# Altium integrated library Motorola Microprocessor 8-Bit.IntLib: 126 symbols (part 2 of 3)
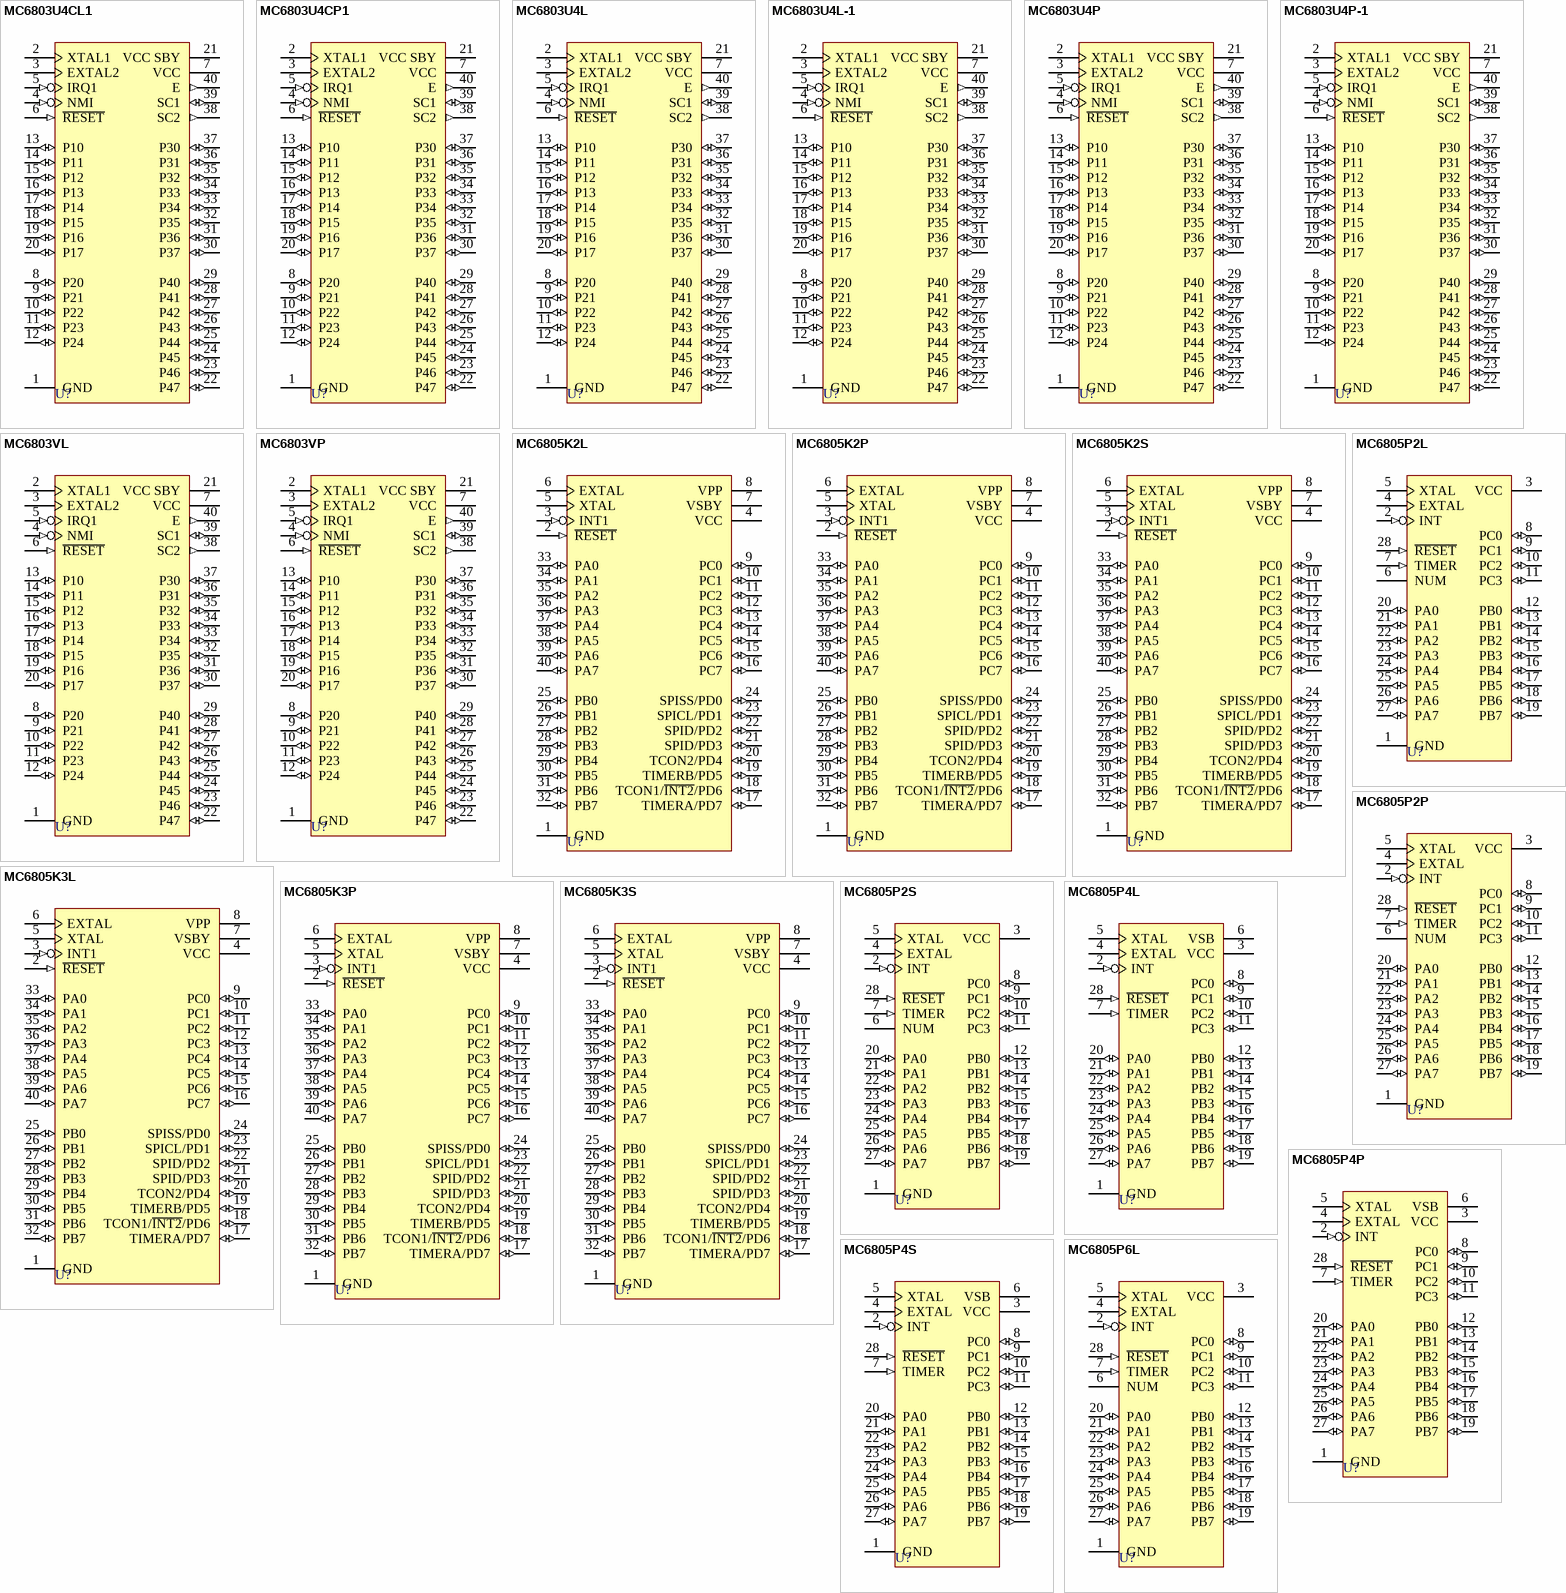
[diagram p7: symbols MC6803U4CL1 to MC6805P6L]

## MC6805P2L
designator U?
8-Bit HMOS 1K Microcomputer; Published: 17-Jul-2002; LatestRevisionDate: 06-Jun-2005; LatestRevisionNote: Stylized 3D Model Added.; DatasheetVersion: 1984; PackageReference: 719-03; Publisher: Altium Limited; PackageDescription: DIP; 28 Leads; Row Spacing 15.24 mm; Pitch 2.54 mm
footprint 719-03 (DIP; 28 Leads; Row Spacing 15.24 mm; Pitch 2.54 mm)
3D model 719-03 (DIP; 28 Leads; Row Spacing 15.24 mm; Pitch 2.54 mm)
pins: 1 GND (power), 2 INT (in), 3 VCC (power), 4 EXTAL, 5 XTAL, 6 NUM, 7 TIMER (in), 8 PC0 (io), 9 PC1 (io), 10 PC2 (io), 11 PC3 (io), 12 PB0 (io), 13 PB1 (io), 14 PB2 (io), 15 PB3 (io), 16 PB4 (io), 17 PB5 (io), 18 PB6 (io), 19 PB7 (io), 20 PA0 (io), 21 PA1 (io), 22 PA2 (io), 23 PA3 (io), 24 PA4 (io), 25 PA5 (io), 26 PA6 (io), 27 PA7 (io), 28 ~{RESET} (in)

## MC6805P2P
designator U?
8-Bit HMOS 1K Microcomputer; Published: 17-Jul-2002; LatestRevisionDate: 06-Jun-2005; LatestRevisionNote: Stylized 3D Model Added.; DatasheetVersion: 1984; PackageReference: 710-02; Publisher: Altium Limited; PackageDescription: DIP; 28 Leads; Row Spacing 15.24 mm; Pitch 2.54 mm
footprint 710-02 (DIP; 28 Leads; Row Spacing 15.24 mm; Pitch 2.54 mm)
3D model 710-02 (DIP; 28 Leads; Row Spacing 15.24 mm; Pitch 2.54 mm)
pins: 1 GND (power), 2 INT (in), 3 VCC (power), 4 EXTAL, 5 XTAL, 6 NUM, 7 TIMER (in), 8 PC0 (io), 9 PC1 (io), 10 PC2 (io), 11 PC3 (io), 12 PB0 (io), 13 PB1 (io), 14 PB2 (io), 15 PB3 (io), 16 PB4 (io), 17 PB5 (io), 18 PB6 (io), 19 PB7 (io), 20 PA0 (io), 21 PA1 (io), 22 PA2 (io), 23 PA3 (io), 24 PA4 (io), 25 PA5 (io), 26 PA6 (io), 27 PA7 (io), 28 ~{RESET} (in)

## MC6805P2S
designator U?
8-Bit HMOS 1K Microcomputer; Published: 17-Jul-2002; LatestRevisionDate: 06-Jun-2005; LatestRevisionNote: Stylized 3D Model Added.; DatasheetVersion: 1984; PackageReference: 733-03; Publisher: Altium Limited; PackageDescription: DIP; 28 Leads; Row Spacing 15.24 mm; Pitch 2.54 mm
footprint 733-03 (DIP; 28 Leads; Row Spacing 15.24 mm; Pitch 2.54 mm)
3D model 710-02 (DIP; 28 Leads; Row Spacing 15.24 mm; Pitch 2.54 mm)
pins: 1 GND (power), 2 INT (in), 3 VCC (power), 4 EXTAL, 5 XTAL, 6 NUM, 7 TIMER (in), 8 PC0 (io), 9 PC1 (io), 10 PC2 (io), 11 PC3 (io), 12 PB0 (io), 13 PB1 (io), 14 PB2 (io), 15 PB3 (io), 16 PB4 (io), 17 PB5 (io), 18 PB6 (io), 19 PB7 (io), 20 PA0 (io), 21 PA1 (io), 22 PA2 (io), 23 PA3 (io), 24 PA4 (io), 25 PA5 (io), 26 PA6 (io), 27 PA7 (io), 28 ~{RESET} (in)

## MC6805P4L
designator U?
8-Bit HMOS 2K Microcomputer; Published: 17-Jul-2002; LatestRevisionDate: 06-Jun-2005; LatestRevisionNote: Stylized 3D Model Added.; DatasheetVersion: 1984; PackageReference: 719-03; Publisher: Altium Limited; PackageDescription: DIP; 28 Leads; Row Spacing 15.24 mm; Pitch 2.54 mm
footprint 719-03 (DIP; 28 Leads; Row Spacing 15.24 mm; Pitch 2.54 mm)
3D model 719-03 (DIP; 28 Leads; Row Spacing 15.24 mm; Pitch 2.54 mm)
pins: 1 GND (power), 2 INT (in), 3 VCC (power), 4 EXTAL, 5 XTAL, 6 VSB (power), 7 TIMER (in), 8 PC0 (io), 9 PC1 (io), 10 PC2 (io), 11 PC3 (io), 12 PB0 (io), 13 PB1 (io), 14 PB2 (io), 15 PB3 (io), 16 PB4 (io), 17 PB5 (io), 18 PB6 (io), 19 PB7 (io), 20 PA0 (io), 21 PA1 (io), 22 PA2 (io), 23 PA3 (io), 24 PA4 (io), 25 PA5 (io), 26 PA6 (io), 27 PA7 (io), 28 ~{RESET} (in)

## MC6805P4P
designator U?
8-Bit HMOS 2K Microcomputer; Published: 17-Jul-2002; LatestRevisionDate: 06-Jun-2005; LatestRevisionNote: Stylized 3D Model Added.; DatasheetVersion: 1984; PackageReference: 710-02; Publisher: Altium Limited; PackageDescription: DIP; 28 Leads; Row Spacing 15.24 mm; Pitch 2.54 mm
footprint 710-02 (DIP; 28 Leads; Row Spacing 15.24 mm; Pitch 2.54 mm)
3D model 710-02 (DIP; 28 Leads; Row Spacing 15.24 mm; Pitch 2.54 mm)
pins: 1 GND (power), 2 INT (in), 3 VCC (power), 4 EXTAL, 5 XTAL, 6 VSB (power), 7 TIMER (in), 8 PC0 (io), 9 PC1 (io), 10 PC2 (io), 11 PC3 (io), 12 PB0 (io), 13 PB1 (io), 14 PB2 (io), 15 PB3 (io), 16 PB4 (io), 17 PB5 (io), 18 PB6 (io), 19 PB7 (io), 20 PA0 (io), 21 PA1 (io), 22 PA2 (io), 23 PA3 (io), 24 PA4 (io), 25 PA5 (io), 26 PA6 (io), 27 PA7 (io), 28 ~{RESET} (in)

## MC6805P4S
designator U?
8-Bit HMOS 2K Microcomputer; Published: 17-Jul-2002; LatestRevisionDate: 06-Jun-2005; LatestRevisionNote: Stylized 3D Model Added.; DatasheetVersion: 1984; PackageReference: 733-03; Publisher: Altium Limited; PackageDescription: DIP; 28 Leads; Row Spacing 15.24 mm; Pitch 2.54 mm
footprint 733-03 (DIP; 28 Leads; Row Spacing 15.24 mm; Pitch 2.54 mm)
3D model 710-02 (DIP; 28 Leads; Row Spacing 15.24 mm; Pitch 2.54 mm)
pins: 1 GND (power), 2 INT (in), 3 VCC (power), 4 EXTAL, 5 XTAL, 6 VSB (power), 7 TIMER (in), 8 PC0 (io), 9 PC1 (io), 10 PC2 (io), 11 PC3 (io), 12 PB0 (io), 13 PB1 (io), 14 PB2 (io), 15 PB3 (io), 16 PB4 (io), 17 PB5 (io), 18 PB6 (io), 19 PB7 (io), 20 PA0 (io), 21 PA1 (io), 22 PA2 (io), 23 PA3 (io), 24 PA4 (io), 25 PA5 (io), 26 PA6 (io), 27 PA7 (io), 28 ~{RESET} (in)

## MC6805P6L
designator U?
8-Bit Microcomputer; Published: 17-Jul-2002; LatestRevisionDate: 06-Jun-2005; LatestRevisionNote: Stylized 3D Model Added.; DatasheetVersion: 1984; PackageReference: 719-03; Publisher: Altium Limited; PackageDescription: DIP; 28 Leads; Row Spacing 15.24 mm; Pitch 2.54 mm
footprint 719-03 (DIP; 28 Leads; Row Spacing 15.24 mm; Pitch 2.54 mm)
3D model 719-03 (DIP; 28 Leads; Row Spacing 15.24 mm; Pitch 2.54 mm)
pins: 1 GND (power), 2 INT (in), 3 VCC (power), 4 EXTAL, 5 XTAL, 6 NUM, 7 TIMER (in), 8 PC0 (io), 9 PC1 (io), 10 PC2 (io), 11 PC3 (io), 12 PB0 (io), 13 PB1 (io), 14 PB2 (io), 15 PB3 (io), 16 PB4 (io), 17 PB5 (io), 18 PB6 (io), 19 PB7 (io), 20 PA0 (io), 21 PA1 (io), 22 PA2 (io), 23 PA3 (io), 24 PA4 (io), 25 PA5 (io), 26 PA6 (io), 27 PA7 (io), 28 ~{RESET} (in)

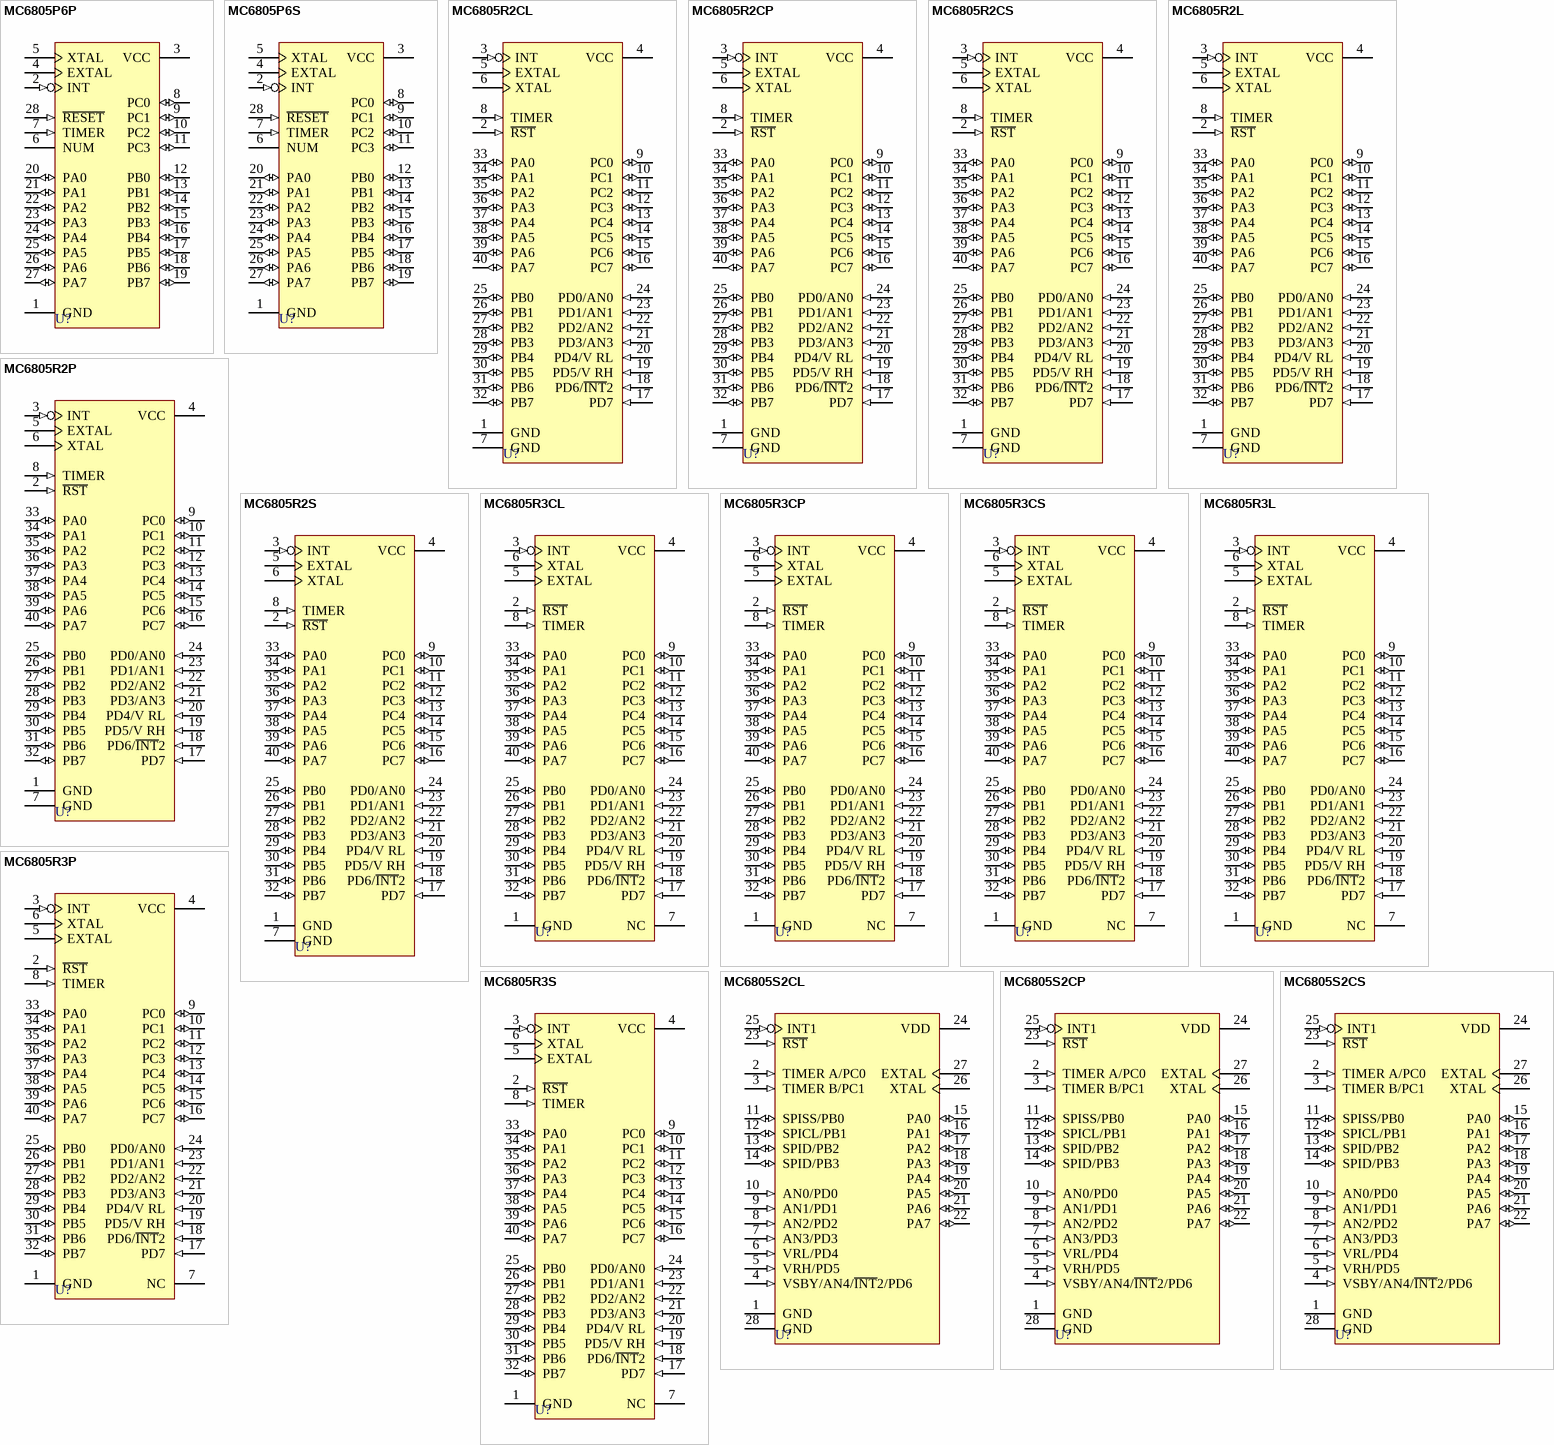
[diagram p3: symbols MC6805P6P to MC6805S2CS]

## MC6805P6P
designator U?
8-Bit Microcomputer; Published: 17-Jul-2002; LatestRevisionDate: 06-Jun-2005; LatestRevisionNote: Stylized 3D Model Added.; DatasheetVersion: 1984; PackageReference: 710-02; Publisher: Altium Limited; PackageDescription: DIP; 28 Leads; Row Spacing 15.24 mm; Pitch 2.54 mm
footprint 710-02 (DIP; 28 Leads; Row Spacing 15.24 mm; Pitch 2.54 mm)
3D model 710-02 (DIP; 28 Leads; Row Spacing 15.24 mm; Pitch 2.54 mm)
pins: 1 GND (power), 2 INT (in), 3 VCC (power), 4 EXTAL, 5 XTAL, 6 NUM, 7 TIMER (in), 8 PC0 (io), 9 PC1 (io), 10 PC2 (io), 11 PC3 (io), 12 PB0 (io), 13 PB1 (io), 14 PB2 (io), 15 PB3 (io), 16 PB4 (io), 17 PB5 (io), 18 PB6 (io), 19 PB7 (io), 20 PA0 (io), 21 PA1 (io), 22 PA2 (io), 23 PA3 (io), 24 PA4 (io), 25 PA5 (io), 26 PA6 (io), 27 PA7 (io), 28 ~{RESET} (in)

## MC6805P6S
designator U?
8-Bit Microcomputer; Published: 17-Jul-2002; LatestRevisionDate: 06-Jun-2005; LatestRevisionNote: Stylized 3D Model Added.; DatasheetVersion: 1984; PackageReference: 733-03; Publisher: Altium Limited; PackageDescription: DIP; 28 Leads; Row Spacing 15.24 mm; Pitch 2.54 mm
footprint 733-03 (DIP; 28 Leads; Row Spacing 15.24 mm; Pitch 2.54 mm)
3D model 710-02 (DIP; 28 Leads; Row Spacing 15.24 mm; Pitch 2.54 mm)
pins: 1 GND (power), 2 INT (in), 3 VCC (power), 4 EXTAL, 5 XTAL, 6 NUM, 7 TIMER (in), 8 PC0 (io), 9 PC1 (io), 10 PC2 (io), 11 PC3 (io), 12 PB0 (io), 13 PB1 (io), 14 PB2 (io), 15 PB3 (io), 16 PB4 (io), 17 PB5 (io), 18 PB6 (io), 19 PB7 (io), 20 PA0 (io), 21 PA1 (io), 22 PA2 (io), 23 PA3 (io), 24 PA4 (io), 25 PA5 (io), 26 PA6 (io), 27 PA7 (io), 28 ~{RESET} (in)

## MC6805R2CL
designator U?
8-Bit Microcomputer; Published: 17-Jul-2002; LatestRevisionDate: 06-Jun-2005; LatestRevisionNote: Stylized 3D Model Added.; DatasheetVersion: 1984; PackageReference: 715-05; Publisher: Altium Limited; PackageDescription: DIP; 40 Leads; Row Spacing 15.24 mm; Pitch 2.54 mm
footprint 715-05 (DIP; 40 Leads; Row Spacing 15.24 mm; Pitch 2.54 mm)
3D model 715-05 (DIP; 40 Leads; Row Spacing 15.24 mm; Pitch 2.54 mm)
pins: 1 GND (power), 2 ~{RST} (in), 3 INT (in), 4 VCC (power), 5 EXTAL, 6 XTAL, 7 GND (power), 8 TIMER (in), 9 PC0 (io), 10 PC1 (io), 11 PC2 (io), 12 PC3 (io), 13 PC4 (io), 14 PC5 (io), 15 PC6 (io), 16 PC7 (io), 17 PD7 (in), 18 PD6/~{INT}2 (in), 19 PD5/V RH (in), 20 PD4/V RL (in), 21 PD3/AN3 (in), 22 PD2/AN2 (in), 23 PD1/AN1 (in), 24 PD0/AN0 (in), 25 PB0 (io), 26 PB1 (io), 27 PB2 (io), 28 PB3 (io), 29 PB4 (io), 30 PB5 (io), 31 PB6 (io), 32 PB7 (io), 33 PA0 (io), 34 PA1 (io), 35 PA2 (io), 36 PA3 (io), 37 PA4 (io), 38 PA5 (io), 39 PA6 (io), 40 PA7 (io)

## MC6805R2CP
designator U?
8-Bit Microcomputer; Published: 17-Jul-2002; LatestRevisionDate: 06-Jun-2005; LatestRevisionNote: Stylized 3D Model Added.; DatasheetVersion: 1984; PackageReference: 711-03; Publisher: Altium Limited; PackageDescription: DIP; 40 Leads; Row Spacing 15.24 mm; Pitch 2.54 mm
footprint 711-03 (DIP; 40 Leads; Row Spacing 15.24 mm; Pitch 2.54 mm)
3D model 711-03 (DIP; 40 Leads; Row Spacing 15.24 mm; Pitch 2.54 mm)
pins: 1 GND (power), 2 ~{RST} (in), 3 INT (in), 4 VCC (power), 5 EXTAL, 6 XTAL, 7 GND (power), 8 TIMER (in), 9 PC0 (io), 10 PC1 (io), 11 PC2 (io), 12 PC3 (io), 13 PC4 (io), 14 PC5 (io), 15 PC6 (io), 16 PC7 (io), 17 PD7 (in), 18 PD6/~{INT}2 (in), 19 PD5/V RH (in), 20 PD4/V RL (in), 21 PD3/AN3 (in), 22 PD2/AN2 (in), 23 PD1/AN1 (in), 24 PD0/AN0 (in), 25 PB0 (io), 26 PB1 (io), 27 PB2 (io), 28 PB3 (io), 29 PB4 (io), 30 PB5 (io), 31 PB6 (io), 32 PB7 (io), 33 PA0 (io), 34 PA1 (io), 35 PA2 (io), 36 PA3 (io), 37 PA4 (io), 38 PA5 (io), 39 PA6 (io), 40 PA7 (io)

## MC6805R2CS
designator U?
8-Bit Microcomputer; Published: 17-Jul-2002; LatestRevisionDate: 06-Jun-2005; LatestRevisionNote: Stylized 3D Model Added.; DatasheetVersion: 1984; PackageReference: 734-04; Publisher: Altium Limited; PackageDescription: DIP; 40 Leads; Row Spacing 15.24 mm; Pitch 2.54 mm; Code_JEDEC: MS-011-AC
footprint 734-04 (DIP; 40 Leads; Row Spacing 15.24 mm; Pitch 2.54 mm)
3D model 734-04 (DIP; 40 Leads; Row Spacing 15.24 mm; Pitch 2.54 mm)
pins: 1 GND (power), 2 ~{RST} (in), 3 INT (in), 4 VCC (power), 5 EXTAL, 6 XTAL, 7 GND (power), 8 TIMER (in), 9 PC0 (io), 10 PC1 (io), 11 PC2 (io), 12 PC3 (io), 13 PC4 (io), 14 PC5 (io), 15 PC6 (io), 16 PC7 (io), 17 PD7 (in), 18 PD6/~{INT}2 (in), 19 PD5/V RH (in), 20 PD4/V RL (in), 21 PD3/AN3 (in), 22 PD2/AN2 (in), 23 PD1/AN1 (in), 24 PD0/AN0 (in), 25 PB0 (io), 26 PB1 (io), 27 PB2 (io), 28 PB3 (io), 29 PB4 (io), 30 PB5 (io), 31 PB6 (io), 32 PB7 (io), 33 PA0 (io), 34 PA1 (io), 35 PA2 (io), 36 PA3 (io), 37 PA4 (io), 38 PA5 (io), 39 PA6 (io), 40 PA7 (io)

## MC6805R2L
designator U?
8-Bit Microcomputer; Published: 17-Jul-2002; LatestRevisionDate: 06-Jun-2005; LatestRevisionNote: Stylized 3D Model Added.; DatasheetVersion: 1984; PackageReference: 715-05; Publisher: Altium Limited; PackageDescription: DIP; 40 Leads; Row Spacing 15.24 mm; Pitch 2.54 mm
footprint 715-05 (DIP; 40 Leads; Row Spacing 15.24 mm; Pitch 2.54 mm)
3D model 715-05 (DIP; 40 Leads; Row Spacing 15.24 mm; Pitch 2.54 mm)
pins: 1 GND (power), 2 ~{RST} (in), 3 INT (in), 4 VCC (power), 5 EXTAL, 6 XTAL, 7 GND (power), 8 TIMER (in), 9 PC0 (io), 10 PC1 (io), 11 PC2 (io), 12 PC3 (io), 13 PC4 (io), 14 PC5 (io), 15 PC6 (io), 16 PC7 (io), 17 PD7 (in), 18 PD6/~{INT}2 (in), 19 PD5/V RH (in), 20 PD4/V RL (in), 21 PD3/AN3 (in), 22 PD2/AN2 (in), 23 PD1/AN1 (in), 24 PD0/AN0 (in), 25 PB0 (io), 26 PB1 (io), 27 PB2 (io), 28 PB3 (io), 29 PB4 (io), 30 PB5 (io), 31 PB6 (io), 32 PB7 (io), 33 PA0 (io), 34 PA1 (io), 35 PA2 (io), 36 PA3 (io), 37 PA4 (io), 38 PA5 (io), 39 PA6 (io), 40 PA7 (io)

## MC6805R2P
designator U?
8-Bit Microcomputer; Published: 17-Jul-2002; LatestRevisionDate: 06-Jun-2005; LatestRevisionNote: Stylized 3D Model Added.; DatasheetVersion: 1984; PackageReference: 711-03; Publisher: Altium Limited; PackageDescription: DIP; 40 Leads; Row Spacing 15.24 mm; Pitch 2.54 mm
footprint 711-03 (DIP; 40 Leads; Row Spacing 15.24 mm; Pitch 2.54 mm)
3D model 711-03 (DIP; 40 Leads; Row Spacing 15.24 mm; Pitch 2.54 mm)
pins: 1 GND (power), 2 ~{RST} (in), 3 INT (in), 4 VCC (power), 5 EXTAL, 6 XTAL, 7 GND (power), 8 TIMER (in), 9 PC0 (io), 10 PC1 (io), 11 PC2 (io), 12 PC3 (io), 13 PC4 (io), 14 PC5 (io), 15 PC6 (io), 16 PC7 (io), 17 PD7 (in), 18 PD6/~{INT}2 (in), 19 PD5/V RH (in), 20 PD4/V RL (in), 21 PD3/AN3 (in), 22 PD2/AN2 (in), 23 PD1/AN1 (in), 24 PD0/AN0 (in), 25 PB0 (io), 26 PB1 (io), 27 PB2 (io), 28 PB3 (io), 29 PB4 (io), 30 PB5 (io), 31 PB6 (io), 32 PB7 (io), 33 PA0 (io), 34 PA1 (io), 35 PA2 (io), 36 PA3 (io), 37 PA4 (io), 38 PA5 (io), 39 PA6 (io), 40 PA7 (io)

## MC6805R2S
designator U?
8-Bit Microcomputer; Published: 17-Jul-2002; LatestRevisionDate: 06-Jun-2005; LatestRevisionNote: Stylized 3D Model Added.; DatasheetVersion: 1984; PackageReference: 734-04; Publisher: Altium Limited; PackageDescription: DIP; 40 Leads; Row Spacing 15.24 mm; Pitch 2.54 mm; Code_JEDEC: MS-011-AC
footprint 734-04 (DIP; 40 Leads; Row Spacing 15.24 mm; Pitch 2.54 mm)
3D model 734-04 (DIP; 40 Leads; Row Spacing 15.24 mm; Pitch 2.54 mm)
pins: 1 GND (power), 2 ~{RST} (in), 3 INT (in), 4 VCC (power), 5 EXTAL, 6 XTAL, 7 GND (power), 8 TIMER (in), 9 PC0 (io), 10 PC1 (io), 11 PC2 (io), 12 PC3 (io), 13 PC4 (io), 14 PC5 (io), 15 PC6 (io), 16 PC7 (io), 17 PD7 (in), 18 PD6/~{INT}2 (in), 19 PD5/V RH (in), 20 PD4/V RL (in), 21 PD3/AN3 (in), 22 PD2/AN2 (in), 23 PD1/AN1 (in), 24 PD0/AN0 (in), 25 PB0 (io), 26 PB1 (io), 27 PB2 (io), 28 PB3 (io), 29 PB4 (io), 30 PB5 (io), 31 PB6 (io), 32 PB7 (io), 33 PA0 (io), 34 PA1 (io), 35 PA2 (io), 36 PA3 (io), 37 PA4 (io), 38 PA5 (io), 39 PA6 (io), 40 PA7 (io)

## MC6805R3CL
designator U?
8-Bit Microcomputer; Published: 17-Jul-2002; LatestRevisionDate: 06-Jun-2005; LatestRevisionNote: Stylized 3D Model Added.; DatasheetVersion: 1984; PackageReference: 715-05; Publisher: Altium Limited; PackageDescription: DIP; 40 Leads; Row Spacing 15.24 mm; Pitch 2.54 mm
footprint 715-05 (DIP; 40 Leads; Row Spacing 15.24 mm; Pitch 2.54 mm)
3D model 715-05 (DIP; 40 Leads; Row Spacing 15.24 mm; Pitch 2.54 mm)
pins: 1 GND (power), 2 ~{RST} (in), 3 INT (in), 4 VCC (power), 5 EXTAL, 6 XTAL, 7 NC, 8 TIMER (in), 9 PC0 (io), 10 PC1 (io), 11 PC2 (io), 12 PC3 (io), 13 PC4 (io), 14 PC5 (io), 15 PC6 (io), 16 PC7 (io), 17 PD7 (in), 18 PD6/~{INT}2 (in), 19 PD5/V RH (in), 20 PD4/V RL (in), 21 PD3/AN3 (in), 22 PD2/AN2 (in), 23 PD1/AN1 (in), 24 PD0/AN0 (in), 25 PB0 (io), 26 PB1 (io), 27 PB2 (io), 28 PB3 (io), 29 PB4 (io), 30 PB5 (io), 31 PB6 (io), 32 PB7 (io), 33 PA0 (io), 34 PA1 (io), 35 PA2 (io), 36 PA3 (io), 37 PA4 (io), 38 PA5 (io), 39 PA6 (io), 40 PA7 (io)

## MC6805R3CP
designator U?
8-Bit Microcomputer; Published: 17-Jul-2002; LatestRevisionDate: 06-Jun-2005; LatestRevisionNote: Stylized 3D Model Added.; DatasheetVersion: 1984; PackageReference: 711-03; Publisher: Altium Limited; PackageDescription: DIP; 40 Leads; Row Spacing 15.24 mm; Pitch 2.54 mm
footprint 711-03 (DIP; 40 Leads; Row Spacing 15.24 mm; Pitch 2.54 mm)
3D model 711-03 (DIP; 40 Leads; Row Spacing 15.24 mm; Pitch 2.54 mm)
pins: 1 GND (power), 2 ~{RST} (in), 3 INT (in), 4 VCC (power), 5 EXTAL, 6 XTAL, 7 NC, 8 TIMER (in), 9 PC0 (io), 10 PC1 (io), 11 PC2 (io), 12 PC3 (io), 13 PC4 (io), 14 PC5 (io), 15 PC6 (io), 16 PC7 (io), 17 PD7 (in), 18 PD6/~{INT}2 (in), 19 PD5/V RH (in), 20 PD4/V RL (in), 21 PD3/AN3 (in), 22 PD2/AN2 (in), 23 PD1/AN1 (in), 24 PD0/AN0 (in), 25 PB0 (io), 26 PB1 (io), 27 PB2 (io), 28 PB3 (io), 29 PB4 (io), 30 PB5 (io), 31 PB6 (io), 32 PB7 (io), 33 PA0 (io), 34 PA1 (io), 35 PA2 (io), 36 PA3 (io), 37 PA4 (io), 38 PA5 (io), 39 PA6 (io), 40 PA7 (io)

## MC6805R3CS
designator U?
8-Bit Microcomputer; Published: 17-Jul-2002; LatestRevisionDate: 06-Jun-2005; LatestRevisionNote: Stylized 3D Model Added.; DatasheetVersion: 1984; PackageReference: 734-04; Publisher: Altium Limited; PackageDescription: DIP; 40 Leads; Row Spacing 15.24 mm; Pitch 2.54 mm; Code_JEDEC: MS-011-AC
footprint 734-04 (DIP; 40 Leads; Row Spacing 15.24 mm; Pitch 2.54 mm)
3D model 734-04 (DIP; 40 Leads; Row Spacing 15.24 mm; Pitch 2.54 mm)
pins: 1 GND (power), 2 ~{RST} (in), 3 INT (in), 4 VCC (power), 5 EXTAL, 6 XTAL, 7 NC, 8 TIMER (in), 9 PC0 (io), 10 PC1 (io), 11 PC2 (io), 12 PC3 (io), 13 PC4 (io), 14 PC5 (io), 15 PC6 (io), 16 PC7 (io), 17 PD7 (in), 18 PD6/~{INT}2 (in), 19 PD5/V RH (in), 20 PD4/V RL (in), 21 PD3/AN3 (in), 22 PD2/AN2 (in), 23 PD1/AN1 (in), 24 PD0/AN0 (in), 25 PB0 (io), 26 PB1 (io), 27 PB2 (io), 28 PB3 (io), 29 PB4 (io), 30 PB5 (io), 31 PB6 (io), 32 PB7 (io), 33 PA0 (io), 34 PA1 (io), 35 PA2 (io), 36 PA3 (io), 37 PA4 (io), 38 PA5 (io), 39 PA6 (io), 40 PA7 (io)

## MC6805R3L
designator U?
8-Bit Microcomputer; Published: 17-Jul-2002; LatestRevisionDate: 06-Jun-2005; LatestRevisionNote: Stylized 3D Model Added.; DatasheetVersion: 1984; PackageReference: 715-05; Publisher: Altium Limited; PackageDescription: DIP; 40 Leads; Row Spacing 15.24 mm; Pitch 2.54 mm
footprint 715-05 (DIP; 40 Leads; Row Spacing 15.24 mm; Pitch 2.54 mm)
3D model 715-05 (DIP; 40 Leads; Row Spacing 15.24 mm; Pitch 2.54 mm)
pins: 1 GND (power), 2 ~{RST} (in), 3 INT (in), 4 VCC (power), 5 EXTAL, 6 XTAL, 7 NC, 8 TIMER (in), 9 PC0 (io), 10 PC1 (io), 11 PC2 (io), 12 PC3 (io), 13 PC4 (io), 14 PC5 (io), 15 PC6 (io), 16 PC7 (io), 17 PD7 (in), 18 PD6/~{INT}2 (in), 19 PD5/V RH (in), 20 PD4/V RL (in), 21 PD3/AN3 (in), 22 PD2/AN2 (in), 23 PD1/AN1 (in), 24 PD0/AN0 (in), 25 PB0 (io), 26 PB1 (io), 27 PB2 (io), 28 PB3 (io), 29 PB4 (io), 30 PB5 (io), 31 PB6 (io), 32 PB7 (io), 33 PA0 (io), 34 PA1 (io), 35 PA2 (io), 36 PA3 (io), 37 PA4 (io), 38 PA5 (io), 39 PA6 (io), 40 PA7 (io)

## MC6805R3P
designator U?
8-Bit Microcomputer; Published: 17-Jul-2002; LatestRevisionDate: 06-Jun-2005; LatestRevisionNote: Stylized 3D Model Added.; DatasheetVersion: 1984; PackageReference: 711-03; Publisher: Altium Limited; PackageDescription: DIP; 40 Leads; Row Spacing 15.24 mm; Pitch 2.54 mm
footprint 711-03 (DIP; 40 Leads; Row Spacing 15.24 mm; Pitch 2.54 mm)
3D model 711-03 (DIP; 40 Leads; Row Spacing 15.24 mm; Pitch 2.54 mm)
pins: 1 GND (power), 2 ~{RST} (in), 3 INT (in), 4 VCC (power), 5 EXTAL, 6 XTAL, 7 NC, 8 TIMER (in), 9 PC0 (io), 10 PC1 (io), 11 PC2 (io), 12 PC3 (io), 13 PC4 (io), 14 PC5 (io), 15 PC6 (io), 16 PC7 (io), 17 PD7 (in), 18 PD6/~{INT}2 (in), 19 PD5/V RH (in), 20 PD4/V RL (in), 21 PD3/AN3 (in), 22 PD2/AN2 (in), 23 PD1/AN1 (in), 24 PD0/AN0 (in), 25 PB0 (io), 26 PB1 (io), 27 PB2 (io), 28 PB3 (io), 29 PB4 (io), 30 PB5 (io), 31 PB6 (io), 32 PB7 (io), 33 PA0 (io), 34 PA1 (io), 35 PA2 (io), 36 PA3 (io), 37 PA4 (io), 38 PA5 (io), 39 PA6 (io), 40 PA7 (io)

## MC6805R3S
designator U?
8-Bit Microcomputer; Published: 17-Jul-2002; LatestRevisionDate: 06-Jun-2005; LatestRevisionNote: Stylized 3D Model Added.; DatasheetVersion: 1984; PackageReference: 734-04; Publisher: Altium Limited; PackageDescription: DIP; 40 Leads; Row Spacing 15.24 mm; Pitch 2.54 mm; Code_JEDEC: MS-011-AC
footprint 734-04 (DIP; 40 Leads; Row Spacing 15.24 mm; Pitch 2.54 mm)
3D model 734-04 (DIP; 40 Leads; Row Spacing 15.24 mm; Pitch 2.54 mm)
pins: 1 GND (power), 2 ~{RST} (in), 3 INT (in), 4 VCC (power), 5 EXTAL, 6 XTAL, 7 NC, 8 TIMER (in), 9 PC0 (io), 10 PC1 (io), 11 PC2 (io), 12 PC3 (io), 13 PC4 (io), 14 PC5 (io), 15 PC6 (io), 16 PC7 (io), 17 PD7 (in), 18 PD6/~{INT}2 (in), 19 PD5/V RH (in), 20 PD4/V RL (in), 21 PD3/AN3 (in), 22 PD2/AN2 (in), 23 PD1/AN1 (in), 24 PD0/AN0 (in), 25 PB0 (io), 26 PB1 (io), 27 PB2 (io), 28 PB3 (io), 29 PB4 (io), 30 PB5 (io), 31 PB6 (io), 32 PB7 (io), 33 PA0 (io), 34 PA1 (io), 35 PA2 (io), 36 PA3 (io), 37 PA4 (io), 38 PA5 (io), 39 PA6 (io), 40 PA7 (io)

## MC6805S2CL
designator U?
8-Bit Microcomputer with A/D Converter, Serial Peripheral Interface and 3 Timers; Published: 17-Jul-2002; LatestRevisionDate: 06-Jun-2005; LatestRevisionNote: Stylized 3D Model Added.; DatasheetVersion: 1984; PackageReference: 719-03; Publisher: Altium Limited; PackageDescription: DIP; 28 Leads; Row Spacing 15.24 mm; Pitch 2.54 mm
footprint 719-03 (DIP; 28 Leads; Row Spacing 15.24 mm; Pitch 2.54 mm)
3D model 719-03 (DIP; 28 Leads; Row Spacing 15.24 mm; Pitch 2.54 mm)
pins: 1 GND (power), 2 TIMER A/PC0 (in), 3 TIMER B/PC1 (in), 4 VSBY/AN4/~{INT}2/PD6 (in), 5 VRH/PD5 (in), 6 VRL/PD4 (in), 7 AN3/PD3 (in), 8 AN2/PD2 (in), 9 AN1/PD1 (in), 10 AN0/PD0 (in), 11 SPISS/PB0 (io), 12 SPICL/PB1 (io), 13 SPID/PB2 (io), 14 SPID/PB3 (io), 15 PA0 (io), 16 PA1 (io), 17 PA2 (io), 18 PA3 (io), 19 PA4 (io), 20 PA5 (io), 21 PA6 (io), 22 PA7 (io), 23 ~{RST} (in), 24 VDD (power), 25 INT1 (in), 26 XTAL, 27 EXTAL, 28 GND (power)

## MC6805S2CP
designator U?
8-Bit Microcomputer with A/D Converter, Serial Peripheral Interface and 3 Timers; Published: 17-Jul-2002; LatestRevisionDate: 06-Jun-2005; LatestRevisionNote: Stylized 3D Model Added.; DatasheetVersion: 1984; PackageReference: 710-02; Publisher: Altium Limited; PackageDescription: DIP; 28 Leads; Row Spacing 15.24 mm; Pitch 2.54 mm
footprint 710-02 (DIP; 28 Leads; Row Spacing 15.24 mm; Pitch 2.54 mm)
3D model 710-02 (DIP; 28 Leads; Row Spacing 15.24 mm; Pitch 2.54 mm)
pins: 1 GND (power), 2 TIMER A/PC0 (in), 3 TIMER B/PC1 (in), 4 VSBY/AN4/~{INT}2/PD6 (in), 5 VRH/PD5 (in), 6 VRL/PD4 (in), 7 AN3/PD3 (in), 8 AN2/PD2 (in), 9 AN1/PD1 (in), 10 AN0/PD0 (in), 11 SPISS/PB0 (io), 12 SPICL/PB1 (io), 13 SPID/PB2 (io), 14 SPID/PB3 (io), 15 PA0 (io), 16 PA1 (io), 17 PA2 (io), 18 PA3 (io), 19 PA4 (io), 20 PA5 (io), 21 PA6 (io), 22 PA7 (io), 23 ~{RST} (in), 24 VDD (power), 25 INT1 (in), 26 XTAL, 27 EXTAL, 28 GND (power)

## MC6805S2CS
designator U?
8-Bit Microcomputer with A/D Converter, Serial Peripheral Interface and 3 Timers; Published: 17-Jul-2002; LatestRevisionDate: 06-Jun-2005; LatestRevisionNote: Stylized 3D Model Added.; DatasheetVersion: 1984; PackageReference: 733-03; Publisher: Altium Limited; PackageDescription: DIP; 28 Leads; Row Spacing 15.24 mm; Pitch 2.54 mm
footprint 733-03 (DIP; 28 Leads; Row Spacing 15.24 mm; Pitch 2.54 mm)
3D model 710-02 (DIP; 28 Leads; Row Spacing 15.24 mm; Pitch 2.54 mm)
pins: 1 GND (power), 2 TIMER A/PC0 (in), 3 TIMER B/PC1 (in), 4 VSBY/AN4/~{INT}2/PD6 (in), 5 VRH/PD5 (in), 6 VRL/PD4 (in), 7 AN3/PD3 (in), 8 AN2/PD2 (in), 9 AN1/PD1 (in), 10 AN0/PD0 (in), 11 SPISS/PB0 (io), 12 SPICL/PB1 (io), 13 SPID/PB2 (io), 14 SPID/PB3 (io), 15 PA0 (io), 16 PA1 (io), 17 PA2 (io), 18 PA3 (io), 19 PA4 (io), 20 PA5 (io), 21 PA6 (io), 22 PA7 (io), 23 ~{RST} (in), 24 VDD (power), 25 INT1 (in), 26 XTAL, 27 EXTAL, 28 GND (power)

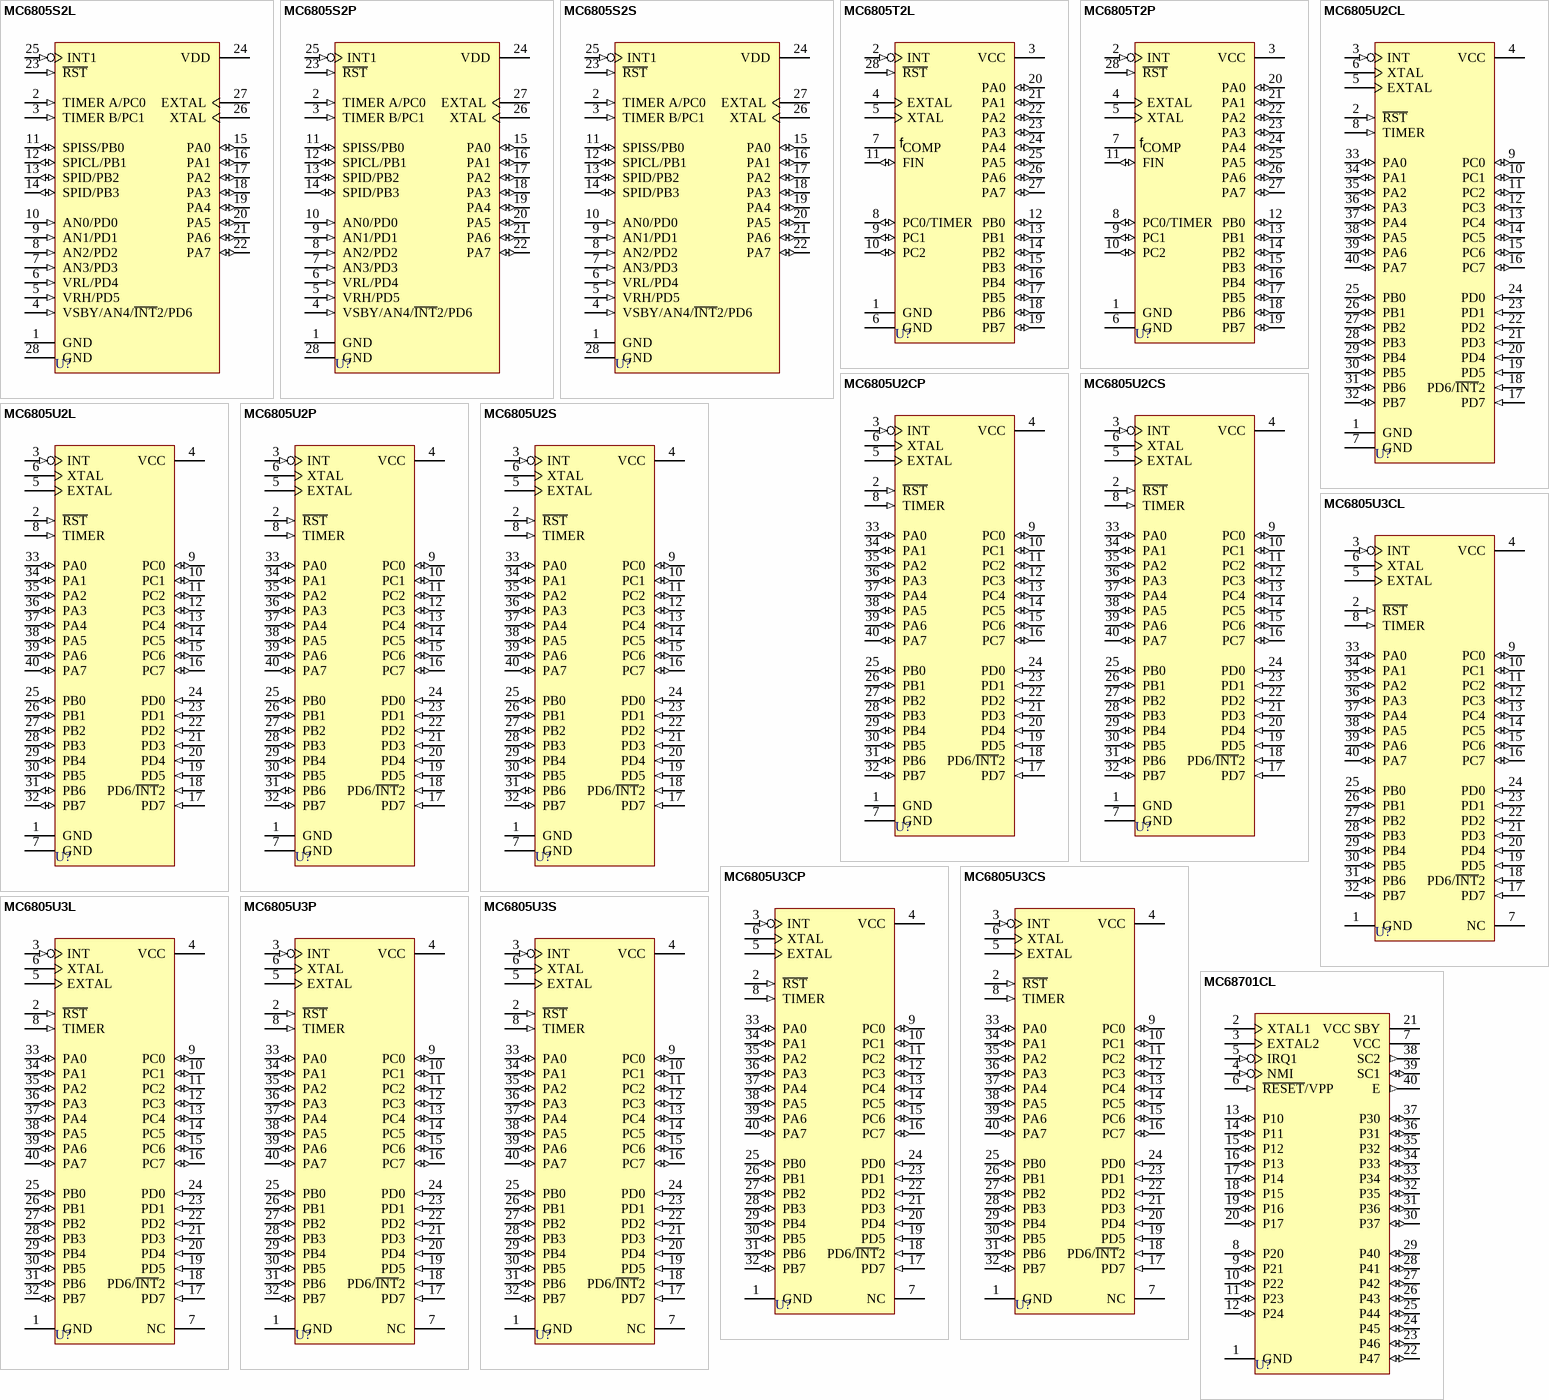
[diagram p4: symbols MC6805S2L to MC68701CL]

## MC6805S2L
designator U?
8-Bit Microcomputer with A/D Converter, Serial Peripheral Interface and 3 Timers; Published: 17-Jul-2002; LatestRevisionDate: 06-Jun-2005; LatestRevisionNote: Stylized 3D Model Added.; DatasheetVersion: 1984; PackageReference: 719-03; Publisher: Altium Limited; PackageDescription: DIP; 28 Leads; Row Spacing 15.24 mm; Pitch 2.54 mm
footprint 719-03 (DIP; 28 Leads; Row Spacing 15.24 mm; Pitch 2.54 mm)
3D model 719-03 (DIP; 28 Leads; Row Spacing 15.24 mm; Pitch 2.54 mm)
pins: 1 GND (power), 2 TIMER A/PC0 (in), 3 TIMER B/PC1 (in), 4 VSBY/AN4/~{INT}2/PD6 (in), 5 VRH/PD5 (in), 6 VRL/PD4 (in), 7 AN3/PD3 (in), 8 AN2/PD2 (in), 9 AN1/PD1 (in), 10 AN0/PD0 (in), 11 SPISS/PB0 (io), 12 SPICL/PB1 (io), 13 SPID/PB2 (io), 14 SPID/PB3 (io), 15 PA0 (io), 16 PA1 (io), 17 PA2 (io), 18 PA3 (io), 19 PA4 (io), 20 PA5 (io), 21 PA6 (io), 22 PA7 (io), 23 ~{RST} (in), 24 VDD (power), 25 INT1 (in), 26 XTAL, 27 EXTAL, 28 GND (power)

## MC6805S2P
designator U?
8-Bit Microcomputer with A/D Converter, Serial Peripheral Interface and 3 Timers; Published: 17-Jul-2002; LatestRevisionDate: 06-Jun-2005; LatestRevisionNote: Stylized 3D Model Added.; DatasheetVersion: 1984; PackageReference: 710-02; Publisher: Altium Limited; PackageDescription: DIP; 28 Leads; Row Spacing 15.24 mm; Pitch 2.54 mm
footprint 710-02 (DIP; 28 Leads; Row Spacing 15.24 mm; Pitch 2.54 mm)
3D model 710-02 (DIP; 28 Leads; Row Spacing 15.24 mm; Pitch 2.54 mm)
pins: 1 GND (power), 2 TIMER A/PC0 (in), 3 TIMER B/PC1 (in), 4 VSBY/AN4/~{INT}2/PD6 (in), 5 VRH/PD5 (in), 6 VRL/PD4 (in), 7 AN3/PD3 (in), 8 AN2/PD2 (in), 9 AN1/PD1 (in), 10 AN0/PD0 (in), 11 SPISS/PB0 (io), 12 SPICL/PB1 (io), 13 SPID/PB2 (io), 14 SPID/PB3 (io), 15 PA0 (io), 16 PA1 (io), 17 PA2 (io), 18 PA3 (io), 19 PA4 (io), 20 PA5 (io), 21 PA6 (io), 22 PA7 (io), 23 ~{RST} (in), 24 VDD (power), 25 INT1 (in), 26 XTAL, 27 EXTAL, 28 GND (power)

## MC6805S2S
designator U?
8-Bit Microcomputer with A/D Converter, Serial Peripheral Interface and 3 Timers; Published: 17-Jul-2002; LatestRevisionDate: 06-Jun-2005; LatestRevisionNote: Stylized 3D Model Added.; DatasheetVersion: 1984; PackageReference: 733-03; Publisher: Altium Limited; PackageDescription: DIP; 28 Leads; Row Spacing 15.24 mm; Pitch 2.54 mm
footprint 733-03 (DIP; 28 Leads; Row Spacing 15.24 mm; Pitch 2.54 mm)
3D model 710-02 (DIP; 28 Leads; Row Spacing 15.24 mm; Pitch 2.54 mm)
pins: 1 GND (power), 2 TIMER A/PC0 (in), 3 TIMER B/PC1 (in), 4 VSBY/AN4/~{INT}2/PD6 (in), 5 VRH/PD5 (in), 6 VRL/PD4 (in), 7 AN3/PD3 (in), 8 AN2/PD2 (in), 9 AN1/PD1 (in), 10 AN0/PD0 (in), 11 SPISS/PB0 (io), 12 SPICL/PB1 (io), 13 SPID/PB2 (io), 14 SPID/PB3 (io), 15 PA0 (io), 16 PA1 (io), 17 PA2 (io), 18 PA3 (io), 19 PA4 (io), 20 PA5 (io), 21 PA6 (io), 22 PA7 (io), 23 ~{RST} (in), 24 VDD (power), 25 INT1 (in), 26 XTAL, 27 EXTAL, 28 GND (power)

## MC6805T2L
designator U?
8-Bit HMOS 2K Microcomputer with PLL Logic; Published: 17-Jul-2002; LatestRevisionDate: 06-Jun-2005; LatestRevisionNote: Stylized 3D Model Added.; DatasheetVersion: 1984; PackageReference: 719-03; Publisher: Altium Limited; PackageDescription: DIP; 28 Leads; Row Spacing 15.24 mm; Pitch 2.54 mm
footprint 719-03 (DIP; 28 Leads; Row Spacing 15.24 mm; Pitch 2.54 mm)
3D model 719-03 (DIP; 28 Leads; Row Spacing 15.24 mm; Pitch 2.54 mm)
pins: 1 GND (power), 2 INT (in), 3 VCC (power), 4 EXTAL, 5 XTAL, 6 GND (power), 7 COMP (hiz), 8 PC0/TIMER (io), 9 PC1 (io), 10 PC2 (io), 11 FIN (io), 12 PB0 (io), 13 PB1 (io), 14 PB2 (io), 15 PB3 (io), 16 PB4 (io), 17 PB5 (io), 18 PB6 (io), 19 PB7 (io), 20 PA0 (io), 21 PA1 (io), 22 PA2 (io), 23 PA3 (io), 24 PA4 (io), 25 PA5 (io), 26 PA6 (io), 27 PA7 (io), 28 ~{RST} (in)
text: f

## MC6805T2P
designator U?
8-Bit HMOS 2K Microcomputer with PLL Logic; Published: 17-Jul-2002; LatestRevisionDate: 06-Jun-2005; LatestRevisionNote: Stylized 3D Model Added.; DatasheetVersion: 1984; PackageReference: 710-02; Publisher: Altium Limited; PackageDescription: DIP; 28 Leads; Row Spacing 15.24 mm; Pitch 2.54 mm
footprint 710-02 (DIP; 28 Leads; Row Spacing 15.24 mm; Pitch 2.54 mm)
3D model 710-02 (DIP; 28 Leads; Row Spacing 15.24 mm; Pitch 2.54 mm)
pins: 1 GND (power), 2 INT (in), 3 VCC (power), 4 EXTAL, 5 XTAL, 6 GND (power), 7 COMP (hiz), 8 PC0/TIMER (io), 9 PC1 (io), 10 PC2 (io), 11 FIN (io), 12 PB0 (io), 13 PB1 (io), 14 PB2 (io), 15 PB3 (io), 16 PB4 (io), 17 PB5 (io), 18 PB6 (io), 19 PB7 (io), 20 PA0 (io), 21 PA1 (io), 22 PA2 (io), 23 PA3 (io), 24 PA4 (io), 25 PA5 (io), 26 PA6 (io), 27 PA7 (io), 28 ~{RST} (in)
text: f

## MC6805U2CL
designator U?
8-Bit Microcomputer; Published: 17-Jul-2002; LatestRevisionDate: 06-Jun-2005; LatestRevisionNote: Stylized 3D Model Added.; DatasheetVersion: 1984; PackageReference: 715-05; Publisher: Altium Limited; PackageDescription: DIP; 40 Leads; Row Spacing 15.24 mm; Pitch 2.54 mm
footprint 715-05 (DIP; 40 Leads; Row Spacing 15.24 mm; Pitch 2.54 mm)
3D model 715-05 (DIP; 40 Leads; Row Spacing 15.24 mm; Pitch 2.54 mm)
pins: 1 GND (power), 2 ~{RST} (in), 3 INT (in), 4 VCC (power), 5 EXTAL, 6 XTAL, 7 GND (power), 8 TIMER (in), 9 PC0 (io), 10 PC1 (io), 11 PC2 (io), 12 PC3 (io), 13 PC4 (io), 14 PC5 (io), 15 PC6 (io), 16 PC7 (io), 17 PD7 (in), 18 PD6/~{INT}2 (in), 19 PD5 (in), 20 PD4 (in), 21 PD3 (in), 22 PD2 (in), 23 PD1 (in), 24 PD0 (in), 25 PB0 (io), 26 PB1 (io), 27 PB2 (io), 28 PB3 (io), 29 PB4 (io), 30 PB5 (io), 31 PB6 (io), 32 PB7 (io), 33 PA0 (io), 34 PA1 (io), 35 PA2 (io), 36 PA3 (io), 37 PA4 (io), 38 PA5 (io), 39 PA6 (io), 40 PA7 (io)

## MC6805U2CP
designator U?
8-Bit Microcomputer; Published: 17-Jul-2002; LatestRevisionDate: 06-Jun-2005; LatestRevisionNote: Stylized 3D Model Added.; DatasheetVersion: 1984; PackageReference: 711-03; Publisher: Altium Limited; PackageDescription: DIP; 40 Leads; Row Spacing 15.24 mm; Pitch 2.54 mm
footprint 711-03 (DIP; 40 Leads; Row Spacing 15.24 mm; Pitch 2.54 mm)
3D model 711-03 (DIP; 40 Leads; Row Spacing 15.24 mm; Pitch 2.54 mm)
pins: 1 GND (power), 2 ~{RST} (in), 3 INT (in), 4 VCC (power), 5 EXTAL, 6 XTAL, 7 GND (power), 8 TIMER (in), 9 PC0 (io), 10 PC1 (io), 11 PC2 (io), 12 PC3 (io), 13 PC4 (io), 14 PC5 (io), 15 PC6 (io), 16 PC7 (io), 17 PD7 (in), 18 PD6/~{INT}2 (in), 19 PD5 (in), 20 PD4 (in), 21 PD3 (in), 22 PD2 (in), 23 PD1 (in), 24 PD0 (in), 25 PB0 (io), 26 PB1 (io), 27 PB2 (io), 28 PB3 (io), 29 PB4 (io), 30 PB5 (io), 31 PB6 (io), 32 PB7 (io), 33 PA0 (io), 34 PA1 (io), 35 PA2 (io), 36 PA3 (io), 37 PA4 (io), 38 PA5 (io), 39 PA6 (io), 40 PA7 (io)

## MC6805U2CS
designator U?
8-Bit Microcomputer; Published: 17-Jul-2002; LatestRevisionDate: 06-Jun-2005; LatestRevisionNote: Stylized 3D Model Added.; DatasheetVersion: 1984; PackageReference: 734-04; Publisher: Altium Limited; PackageDescription: DIP; 40 Leads; Row Spacing 15.24 mm; Pitch 2.54 mm; Code_JEDEC: MS-011-AC
footprint 734-04 (DIP; 40 Leads; Row Spacing 15.24 mm; Pitch 2.54 mm)
3D model 734-04 (DIP; 40 Leads; Row Spacing 15.24 mm; Pitch 2.54 mm)
pins: 1 GND (power), 2 ~{RST} (in), 3 INT (in), 4 VCC (power), 5 EXTAL, 6 XTAL, 7 GND (power), 8 TIMER (in), 9 PC0 (io), 10 PC1 (io), 11 PC2 (io), 12 PC3 (io), 13 PC4 (io), 14 PC5 (io), 15 PC6 (io), 16 PC7 (io), 17 PD7 (in), 18 PD6/~{INT}2 (in), 19 PD5 (in), 20 PD4 (in), 21 PD3 (in), 22 PD2 (in), 23 PD1 (in), 24 PD0 (in), 25 PB0 (io), 26 PB1 (io), 27 PB2 (io), 28 PB3 (io), 29 PB4 (io), 30 PB5 (io), 31 PB6 (io), 32 PB7 (io), 33 PA0 (io), 34 PA1 (io), 35 PA2 (io), 36 PA3 (io), 37 PA4 (io), 38 PA5 (io), 39 PA6 (io), 40 PA7 (io)

## MC6805U2L
designator U?
8-Bit Microcomputer; Published: 17-Jul-2002; LatestRevisionDate: 06-Jun-2005; LatestRevisionNote: Stylized 3D Model Added.; DatasheetVersion: 1984; PackageReference: 715-05; Publisher: Altium Limited; PackageDescription: DIP; 40 Leads; Row Spacing 15.24 mm; Pitch 2.54 mm
footprint 715-05 (DIP; 40 Leads; Row Spacing 15.24 mm; Pitch 2.54 mm)
3D model 715-05 (DIP; 40 Leads; Row Spacing 15.24 mm; Pitch 2.54 mm)
pins: 1 GND (power), 2 ~{RST} (in), 3 INT (in), 4 VCC (power), 5 EXTAL, 6 XTAL, 7 GND (power), 8 TIMER (in), 9 PC0 (io), 10 PC1 (io), 11 PC2 (io), 12 PC3 (io), 13 PC4 (io), 14 PC5 (io), 15 PC6 (io), 16 PC7 (io), 17 PD7 (in), 18 PD6/~{INT}2 (in), 19 PD5 (in), 20 PD4 (in), 21 PD3 (in), 22 PD2 (in), 23 PD1 (in), 24 PD0 (in), 25 PB0 (io), 26 PB1 (io), 27 PB2 (io), 28 PB3 (io), 29 PB4 (io), 30 PB5 (io), 31 PB6 (io), 32 PB7 (io), 33 PA0 (io), 34 PA1 (io), 35 PA2 (io), 36 PA3 (io), 37 PA4 (io), 38 PA5 (io), 39 PA6 (io), 40 PA7 (io)

## MC6805U2P
designator U?
8-Bit Microcomputer; Published: 17-Jul-2002; LatestRevisionDate: 06-Jun-2005; LatestRevisionNote: Stylized 3D Model Added.; DatasheetVersion: 1984; PackageReference: 711-03; Publisher: Altium Limited; PackageDescription: DIP; 40 Leads; Row Spacing 15.24 mm; Pitch 2.54 mm
footprint 711-03 (DIP; 40 Leads; Row Spacing 15.24 mm; Pitch 2.54 mm)
3D model 711-03 (DIP; 40 Leads; Row Spacing 15.24 mm; Pitch 2.54 mm)
pins: 1 GND (power), 2 ~{RST} (in), 3 INT (in), 4 VCC (power), 5 EXTAL, 6 XTAL, 7 GND (power), 8 TIMER (in), 9 PC0 (io), 10 PC1 (io), 11 PC2 (io), 12 PC3 (io), 13 PC4 (io), 14 PC5 (io), 15 PC6 (io), 16 PC7 (io), 17 PD7 (in), 18 PD6/~{INT}2 (in), 19 PD5 (in), 20 PD4 (in), 21 PD3 (in), 22 PD2 (in), 23 PD1 (in), 24 PD0 (in), 25 PB0 (io), 26 PB1 (io), 27 PB2 (io), 28 PB3 (io), 29 PB4 (io), 30 PB5 (io), 31 PB6 (io), 32 PB7 (io), 33 PA0 (io), 34 PA1 (io), 35 PA2 (io), 36 PA3 (io), 37 PA4 (io), 38 PA5 (io), 39 PA6 (io), 40 PA7 (io)

## MC6805U2S
designator U?
8-Bit Microcomputer; Published: 17-Jul-2002; LatestRevisionDate: 06-Jun-2005; LatestRevisionNote: Stylized 3D Model Added.; DatasheetVersion: 1984; PackageReference: 734-04; Publisher: Altium Limited; PackageDescription: DIP; 40 Leads; Row Spacing 15.24 mm; Pitch 2.54 mm; Code_JEDEC: MS-011-AC
footprint 734-04 (DIP; 40 Leads; Row Spacing 15.24 mm; Pitch 2.54 mm)
3D model 734-04 (DIP; 40 Leads; Row Spacing 15.24 mm; Pitch 2.54 mm)
pins: 1 GND (power), 2 ~{RST} (in), 3 INT (in), 4 VCC (power), 5 EXTAL, 6 XTAL, 7 GND (power), 8 TIMER (in), 9 PC0 (io), 10 PC1 (io), 11 PC2 (io), 12 PC3 (io), 13 PC4 (io), 14 PC5 (io), 15 PC6 (io), 16 PC7 (io), 17 PD7 (in), 18 PD6/~{INT}2 (in), 19 PD5 (in), 20 PD4 (in), 21 PD3 (in), 22 PD2 (in), 23 PD1 (in), 24 PD0 (in), 25 PB0 (io), 26 PB1 (io), 27 PB2 (io), 28 PB3 (io), 29 PB4 (io), 30 PB5 (io), 31 PB6 (io), 32 PB7 (io), 33 PA0 (io), 34 PA1 (io), 35 PA2 (io), 36 PA3 (io), 37 PA4 (io), 38 PA5 (io), 39 PA6 (io), 40 PA7 (io)

## MC6805U3CL
designator U?
8-Bit Microcomputer; Published: 17-Jul-2002; LatestRevisionDate: 06-Jun-2005; LatestRevisionNote: Stylized 3D Model Added.; DatasheetVersion: 1984; PackageReference: 715-05; Publisher: Altium Limited; PackageDescription: DIP; 40 Leads; Row Spacing 15.24 mm; Pitch 2.54 mm
footprint 715-05 (DIP; 40 Leads; Row Spacing 15.24 mm; Pitch 2.54 mm)
3D model 715-05 (DIP; 40 Leads; Row Spacing 15.24 mm; Pitch 2.54 mm)
pins: 1 GND (power), 2 ~{RST} (in), 3 INT (in), 4 VCC (power), 5 EXTAL, 6 XTAL, 7 NC, 8 TIMER (in), 9 PC0 (io), 10 PC1 (io), 11 PC2 (io), 12 PC3 (io), 13 PC4 (io), 14 PC5 (io), 15 PC6 (io), 16 PC7 (io), 17 PD7 (in), 18 PD6/~{INT}2 (in), 19 PD5 (in), 20 PD4 (in), 21 PD3 (in), 22 PD2 (in), 23 PD1 (in), 24 PD0 (in), 25 PB0 (io), 26 PB1 (io), 27 PB2 (io), 28 PB3 (io), 29 PB4 (io), 30 PB5 (io), 31 PB6 (io), 32 PB7 (io), 33 PA0 (io), 34 PA1 (io), 35 PA2 (io), 36 PA3 (io), 37 PA4 (io), 38 PA5 (io), 39 PA6 (io), 40 PA7 (io)

## MC6805U3CP
designator U?
8-Bit Microcomputer; Published: 17-Jul-2002; LatestRevisionDate: 06-Jun-2005; LatestRevisionNote: Stylized 3D Model Added.; DatasheetVersion: 1984; PackageReference: 711-03; Publisher: Altium Limited; PackageDescription: DIP; 40 Leads; Row Spacing 15.24 mm; Pitch 2.54 mm
footprint 711-03 (DIP; 40 Leads; Row Spacing 15.24 mm; Pitch 2.54 mm)
3D model 711-03 (DIP; 40 Leads; Row Spacing 15.24 mm; Pitch 2.54 mm)
pins: 1 GND (power), 2 ~{RST} (in), 3 INT (in), 4 VCC (power), 5 EXTAL, 6 XTAL, 7 NC, 8 TIMER (in), 9 PC0 (io), 10 PC1 (io), 11 PC2 (io), 12 PC3 (io), 13 PC4 (io), 14 PC5 (io), 15 PC6 (io), 16 PC7 (io), 17 PD7 (in), 18 PD6/~{INT}2 (in), 19 PD5 (in), 20 PD4 (in), 21 PD3 (in), 22 PD2 (in), 23 PD1 (in), 24 PD0 (in), 25 PB0 (io), 26 PB1 (io), 27 PB2 (io), 28 PB3 (io), 29 PB4 (io), 30 PB5 (io), 31 PB6 (io), 32 PB7 (io), 33 PA0 (io), 34 PA1 (io), 35 PA2 (io), 36 PA3 (io), 37 PA4 (io), 38 PA5 (io), 39 PA6 (io), 40 PA7 (io)

## MC6805U3CS
designator U?
8-Bit Microcomputer; Published: 17-Jul-2002; LatestRevisionDate: 06-Jun-2005; LatestRevisionNote: Stylized 3D Model Added.; DatasheetVersion: 1984; PackageReference: 734-04; Publisher: Altium Limited; PackageDescription: DIP; 40 Leads; Row Spacing 15.24 mm; Pitch 2.54 mm; Code_JEDEC: MS-011-AC
footprint 734-04 (DIP; 40 Leads; Row Spacing 15.24 mm; Pitch 2.54 mm)
3D model 734-04 (DIP; 40 Leads; Row Spacing 15.24 mm; Pitch 2.54 mm)
pins: 1 GND (power), 2 ~{RST} (in), 3 INT (in), 4 VCC (power), 5 EXTAL, 6 XTAL, 7 NC, 8 TIMER (in), 9 PC0 (io), 10 PC1 (io), 11 PC2 (io), 12 PC3 (io), 13 PC4 (io), 14 PC5 (io), 15 PC6 (io), 16 PC7 (io), 17 PD7 (in), 18 PD6/~{INT}2 (in), 19 PD5 (in), 20 PD4 (in), 21 PD3 (in), 22 PD2 (in), 23 PD1 (in), 24 PD0 (in), 25 PB0 (io), 26 PB1 (io), 27 PB2 (io), 28 PB3 (io), 29 PB4 (io), 30 PB5 (io), 31 PB6 (io), 32 PB7 (io), 33 PA0 (io), 34 PA1 (io), 35 PA2 (io), 36 PA3 (io), 37 PA4 (io), 38 PA5 (io), 39 PA6 (io), 40 PA7 (io)

## MC6805U3L
designator U?
8-Bit Microcomputer; Published: 17-Jul-2002; LatestRevisionDate: 06-Jun-2005; LatestRevisionNote: Stylized 3D Model Added.; DatasheetVersion: 1984; PackageReference: 715-05; Publisher: Altium Limited; PackageDescription: DIP; 40 Leads; Row Spacing 15.24 mm; Pitch 2.54 mm
footprint 715-05 (DIP; 40 Leads; Row Spacing 15.24 mm; Pitch 2.54 mm)
3D model 715-05 (DIP; 40 Leads; Row Spacing 15.24 mm; Pitch 2.54 mm)
pins: 1 GND (power), 2 ~{RST} (in), 3 INT (in), 4 VCC (power), 5 EXTAL, 6 XTAL, 7 NC, 8 TIMER (in), 9 PC0 (io), 10 PC1 (io), 11 PC2 (io), 12 PC3 (io), 13 PC4 (io), 14 PC5 (io), 15 PC6 (io), 16 PC7 (io), 17 PD7 (in), 18 PD6/~{INT}2 (in), 19 PD5 (in), 20 PD4 (in), 21 PD3 (in), 22 PD2 (in), 23 PD1 (in), 24 PD0 (in), 25 PB0 (io), 26 PB1 (io), 27 PB2 (io), 28 PB3 (io), 29 PB4 (io), 30 PB5 (io), 31 PB6 (io), 32 PB7 (io), 33 PA0 (io), 34 PA1 (io), 35 PA2 (io), 36 PA3 (io), 37 PA4 (io), 38 PA5 (io), 39 PA6 (io), 40 PA7 (io)

## MC6805U3P
designator U?
8-Bit Microcomputer; Published: 17-Jul-2002; LatestRevisionDate: 06-Jun-2005; LatestRevisionNote: Stylized 3D Model Added.; DatasheetVersion: 1984; PackageReference: 711-03; Publisher: Altium Limited; PackageDescription: DIP; 40 Leads; Row Spacing 15.24 mm; Pitch 2.54 mm
footprint 711-03 (DIP; 40 Leads; Row Spacing 15.24 mm; Pitch 2.54 mm)
3D model 711-03 (DIP; 40 Leads; Row Spacing 15.24 mm; Pitch 2.54 mm)
pins: 1 GND (power), 2 ~{RST} (in), 3 INT (in), 4 VCC (power), 5 EXTAL, 6 XTAL, 7 NC, 8 TIMER (in), 9 PC0 (io), 10 PC1 (io), 11 PC2 (io), 12 PC3 (io), 13 PC4 (io), 14 PC5 (io), 15 PC6 (io), 16 PC7 (io), 17 PD7 (in), 18 PD6/~{INT}2 (in), 19 PD5 (in), 20 PD4 (in), 21 PD3 (in), 22 PD2 (in), 23 PD1 (in), 24 PD0 (in), 25 PB0 (io), 26 PB1 (io), 27 PB2 (io), 28 PB3 (io), 29 PB4 (io), 30 PB5 (io), 31 PB6 (io), 32 PB7 (io), 33 PA0 (io), 34 PA1 (io), 35 PA2 (io), 36 PA3 (io), 37 PA4 (io), 38 PA5 (io), 39 PA6 (io), 40 PA7 (io)

## MC6805U3S
designator U?
8-Bit Microcomputer; Published: 17-Jul-2002; LatestRevisionDate: 06-Jun-2005; LatestRevisionNote: Stylized 3D Model Added.; DatasheetVersion: 1984; PackageReference: 734-04; Publisher: Altium Limited; PackageDescription: DIP; 40 Leads; Row Spacing 15.24 mm; Pitch 2.54 mm; Code_JEDEC: MS-011-AC
footprint 734-04 (DIP; 40 Leads; Row Spacing 15.24 mm; Pitch 2.54 mm)
3D model 734-04 (DIP; 40 Leads; Row Spacing 15.24 mm; Pitch 2.54 mm)
pins: 1 GND (power), 2 ~{RST} (in), 3 INT (in), 4 VCC (power), 5 EXTAL, 6 XTAL, 7 NC, 8 TIMER (in), 9 PC0 (io), 10 PC1 (io), 11 PC2 (io), 12 PC3 (io), 13 PC4 (io), 14 PC5 (io), 15 PC6 (io), 16 PC7 (io), 17 PD7 (in), 18 PD6/~{INT}2 (in), 19 PD5 (in), 20 PD4 (in), 21 PD3 (in), 22 PD2 (in), 23 PD1 (in), 24 PD0 (in), 25 PB0 (io), 26 PB1 (io), 27 PB2 (io), 28 PB3 (io), 29 PB4 (io), 30 PB5 (io), 31 PB6 (io), 32 PB7 (io), 33 PA0 (io), 34 PA1 (io), 35 PA2 (io), 36 PA3 (io), 37 PA4 (io), 38 PA5 (io), 39 PA6 (io), 40 PA7 (io)

## MC68701CL
designator U?
EPROM Microcomputer; Published: 17-Jul-2002; LatestRevisionDate: 06-Jun-2005; LatestRevisionNote: Stylized 3D Model Added.; DatasheetVersion: 1984; PackageReference: 715-06; Publisher: Altium Limited; PackageDescription: DIP; 40 Leads; Row Spacing 15.24 mm; Pitch 2.54 mm
footprint 715-06 (DIP; 40 Leads; Row Spacing 15.24 mm; Pitch 2.54 mm)
3D model 715-05 (DIP; 40 Leads; Row Spacing 15.24 mm; Pitch 2.54 mm)
pins: 1 GND (power), 2 XTAL1, 3 EXTAL2, 4 NMI (in), 5 IRQ1 (in), 6 ~{RESET}/VPP (in), 7 VCC (power), 8 P20 (io), 9 P21 (io), 10 P22 (io), 11 P23 (io), 12 P24 (io), 13 P10 (io), 14 P11 (io), 15 P12 (io), 16 P13 (io), 17 P14 (io), 18 P15 (io), 19 P16 (io), 20 P17 (io), 21 VCC SBY (power), 22 P47 (io), 23 P46 (io), 24 P45 (io), 25 P44 (io), 26 P43 (io), 27 P42 (io), 28 P41 (io), 29 P40 (io), 30 P37 (io), 31 P36 (io), 32 P35 (io), 33 P34 (io), 34 P33 (io), 35 P32 (io), 36 P31 (io), 37 P30 (io), 38 SC2 (out), 39 SC1 (io), 40 E (out)

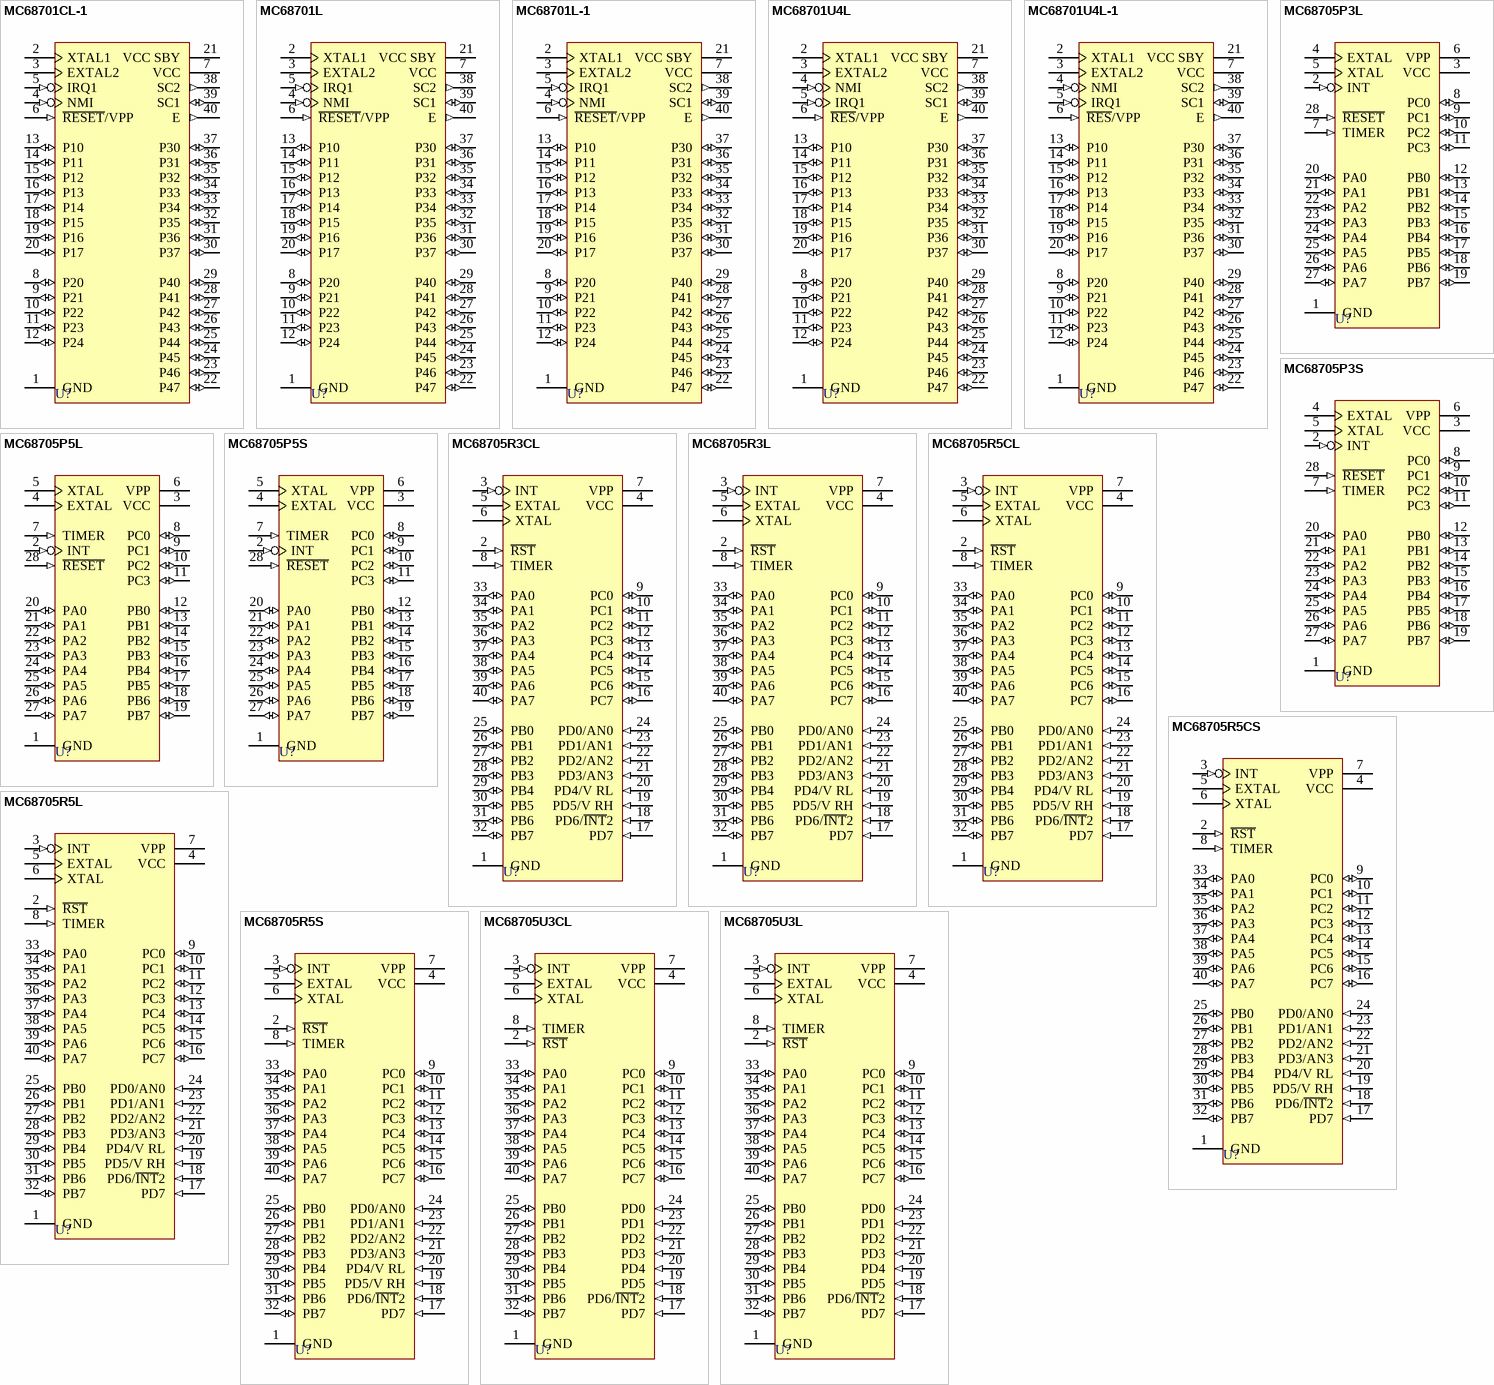
[diagram p5: symbols MC68701CL-1 to MC68705U3L]

## MC68701CL-1
designator U?
EPROM Microcomputer; Published: 17-Jul-2002; LatestRevisionDate: 06-Jun-2005; LatestRevisionNote: Stylized 3D Model Added.; DatasheetVersion: 1984; PackageReference: 715-06; Publisher: Altium Limited; PackageDescription: DIP; 40 Leads; Row Spacing 15.24 mm; Pitch 2.54 mm
footprint 715-06 (DIP; 40 Leads; Row Spacing 15.24 mm; Pitch 2.54 mm)
3D model 715-05 (DIP; 40 Leads; Row Spacing 15.24 mm; Pitch 2.54 mm)
pins: 1 GND (power), 2 XTAL1, 3 EXTAL2, 4 NMI (in), 5 IRQ1 (in), 6 ~{RESET}/VPP (in), 7 VCC (power), 8 P20 (io), 9 P21 (io), 10 P22 (io), 11 P23 (io), 12 P24 (io), 13 P10 (io), 14 P11 (io), 15 P12 (io), 16 P13 (io), 17 P14 (io), 18 P15 (io), 19 P16 (io), 20 P17 (io), 21 VCC SBY (power), 22 P47 (io), 23 P46 (io), 24 P45 (io), 25 P44 (io), 26 P43 (io), 27 P42 (io), 28 P41 (io), 29 P40 (io), 30 P37 (io), 31 P36 (io), 32 P35 (io), 33 P34 (io), 34 P33 (io), 35 P32 (io), 36 P31 (io), 37 P30 (io), 38 SC2 (out), 39 SC1 (io), 40 E (out)

## MC68701L
designator U?
EPROM Microcomputer; Published: 17-Jul-2002; LatestRevisionDate: 06-Jun-2005; LatestRevisionNote: Stylized 3D Model Added.; DatasheetVersion: 1984; PackageReference: 715-06; Publisher: Altium Limited; PackageDescription: DIP; 40 Leads; Row Spacing 15.24 mm; Pitch 2.54 mm
footprint 715-06 (DIP; 40 Leads; Row Spacing 15.24 mm; Pitch 2.54 mm)
3D model 715-05 (DIP; 40 Leads; Row Spacing 15.24 mm; Pitch 2.54 mm)
pins: 1 GND (power), 2 XTAL1, 3 EXTAL2, 4 NMI (in), 5 IRQ1 (in), 6 ~{RESET}/VPP (in), 7 VCC (power), 8 P20 (io), 9 P21 (io), 10 P22 (io), 11 P23 (io), 12 P24 (io), 13 P10 (io), 14 P11 (io), 15 P12 (io), 16 P13 (io), 17 P14 (io), 18 P15 (io), 19 P16 (io), 20 P17 (io), 21 VCC SBY (power), 22 P47 (io), 23 P46 (io), 24 P45 (io), 25 P44 (io), 26 P43 (io), 27 P42 (io), 28 P41 (io), 29 P40 (io), 30 P37 (io), 31 P36 (io), 32 P35 (io), 33 P34 (io), 34 P33 (io), 35 P32 (io), 36 P31 (io), 37 P30 (io), 38 SC2 (out), 39 SC1 (io), 40 E (out)

## MC68701L-1
designator U?
EPROM Microcomputer; Published: 17-Jul-2002; LatestRevisionDate: 06-Jun-2005; LatestRevisionNote: Stylized 3D Model Added.; DatasheetVersion: 1984; PackageReference: 715-06; Publisher: Altium Limited; PackageDescription: DIP; 40 Leads; Row Spacing 15.24 mm; Pitch 2.54 mm
footprint 715-06 (DIP; 40 Leads; Row Spacing 15.24 mm; Pitch 2.54 mm)
3D model 715-05 (DIP; 40 Leads; Row Spacing 15.24 mm; Pitch 2.54 mm)
pins: 1 GND (power), 2 XTAL1, 3 EXTAL2, 4 NMI (in), 5 IRQ1 (in), 6 ~{RESET}/VPP (in), 7 VCC (power), 8 P20 (io), 9 P21 (io), 10 P22 (io), 11 P23 (io), 12 P24 (io), 13 P10 (io), 14 P11 (io), 15 P12 (io), 16 P13 (io), 17 P14 (io), 18 P15 (io), 19 P16 (io), 20 P17 (io), 21 VCC SBY (power), 22 P47 (io), 23 P46 (io), 24 P45 (io), 25 P44 (io), 26 P43 (io), 27 P42 (io), 28 P41 (io), 29 P40 (io), 30 P37 (io), 31 P36 (io), 32 P35 (io), 33 P34 (io), 34 P33 (io), 35 P32 (io), 36 P31 (io), 37 P30 (io), 38 SC2 (out), 39 SC1 (io), 40 E (out)

## MC68701U4L
designator U?
8-Bit EPROM Microcomputer/Microprocessor; Published: 17-Jul-2002; LatestRevisionDate: 06-Jun-2005; LatestRevisionNote: Stylized 3D Model Added.; DatasheetVersion: 1984; PackageReference: 715-06; Publisher: Altium Limited; PackageDescription: DIP; 40 Leads; Row Spacing 15.24 mm; Pitch 2.54 mm
footprint 715-06 (DIP; 40 Leads; Row Spacing 15.24 mm; Pitch 2.54 mm)
3D model 715-05 (DIP; 40 Leads; Row Spacing 15.24 mm; Pitch 2.54 mm)
pins: 1 GND (power), 2 XTAL1, 3 EXTAL2, 4 NMI (in), 5 IRQ1 (in), 6 ~{RES}/VPP (in), 7 VCC (power), 8 P20 (io), 9 P21 (io), 10 P22 (io), 11 P23 (io), 12 P24 (io), 13 P10 (io), 14 P11 (io), 15 P12 (io), 16 P13 (io), 17 P14 (io), 18 P15 (io), 19 P16 (io), 20 P17 (io), 21 VCC SBY (power), 22 P47 (io), 23 P46 (io), 24 P45 (io), 25 P44 (io), 26 P43 (io), 27 P42 (io), 28 P41 (io), 29 P40 (io), 30 P37 (io), 31 P36 (io), 32 P35 (io), 33 P34 (io), 34 P33 (io), 35 P32 (io), 36 P31 (io), 37 P30 (io), 38 SC2 (out), 39 SC1 (io), 40 E (out)

## MC68701U4L-1
designator U?
8-Bit EPROM Microcomputer/Microprocessor; Published: 17-Jul-2002; LatestRevisionDate: 06-Jun-2005; LatestRevisionNote: Stylized 3D Model Added.; DatasheetVersion: 1984; PackageReference: 715-06; Publisher: Altium Limited; PackageDescription: DIP; 40 Leads; Row Spacing 15.24 mm; Pitch 2.54 mm
footprint 715-06 (DIP; 40 Leads; Row Spacing 15.24 mm; Pitch 2.54 mm)
3D model 715-05 (DIP; 40 Leads; Row Spacing 15.24 mm; Pitch 2.54 mm)
pins: 1 GND (power), 2 XTAL1, 3 EXTAL2, 4 NMI (in), 5 IRQ1 (in), 6 ~{RES}/VPP (in), 7 VCC (power), 8 P20 (io), 9 P21 (io), 10 P22 (io), 11 P23 (io), 12 P24 (io), 13 P10 (io), 14 P11 (io), 15 P12 (io), 16 P13 (io), 17 P14 (io), 18 P15 (io), 19 P16 (io), 20 P17 (io), 21 VCC SBY (power), 22 P47 (io), 23 P46 (io), 24 P45 (io), 25 P44 (io), 26 P43 (io), 27 P42 (io), 28 P41 (io), 29 P40 (io), 30 P37 (io), 31 P36 (io), 32 P35 (io), 33 P34 (io), 34 P33 (io), 35 P32 (io), 36 P31 (io), 37 P30 (io), 38 SC2 (out), 39 SC1 (io), 40 E (out)

## MC68705P3L
designator U?
8-Bit EPROM Microcomputer; Published: 17-Jul-2002; LatestRevisionDate: 06-Jun-2005; LatestRevisionNote: Stylized 3D Model Added.; DatasheetVersion: 1984; PackageReference: 719-04; Publisher: Altium Limited; PackageDescription: DIP; 28 Leads; Row Spacing 15.24 mm; Pitch 2.54 mm
footprint 719-04 (DIP; 28 Leads; Row Spacing 15.24 mm; Pitch 2.54 mm)
3D model 719-03 (DIP; 28 Leads; Row Spacing 15.24 mm; Pitch 2.54 mm)
pins: 1 GND (power), 2 INT (in), 3 VCC (power), 4 EXTAL, 5 XTAL, 6 VPP (power), 7 TIMER (in), 8 PC0 (io), 9 PC1 (io), 10 PC2 (io), 11 PC3 (io), 12 PB0 (io), 13 PB1 (io), 14 PB2 (io), 15 PB3 (io), 16 PB4 (io), 17 PB5 (io), 18 PB6 (io), 19 PB7 (io), 20 PA0 (io), 21 PA1 (io), 22 PA2 (io), 23 PA3 (io), 24 PA4 (io), 25 PA5 (io), 26 PA6 (io), 27 PA7 (io), 28 ~{RESET} (in)

## MC68705P3S
designator U?
8-Bit EPROM Microcomputer; Published: 17-Jul-2002; LatestRevisionDate: 06-Jun-2005; LatestRevisionNote: Stylized 3D Model Added.; DatasheetVersion: 1984; PackageReference: 733-03; Publisher: Altium Limited; PackageDescription: DIP; 28 Leads; Row Spacing 15.24 mm; Pitch 2.54 mm
footprint 733-03 (DIP; 28 Leads; Row Spacing 15.24 mm; Pitch 2.54 mm)
3D model 710-02 (DIP; 28 Leads; Row Spacing 15.24 mm; Pitch 2.54 mm)
pins: 1 GND (power), 2 INT (in), 3 VCC (power), 4 EXTAL, 5 XTAL, 6 VPP (power), 7 TIMER (in), 8 PC0 (io), 9 PC1 (io), 10 PC2 (io), 11 PC3 (io), 12 PB0 (io), 13 PB1 (io), 14 PB2 (io), 15 PB3 (io), 16 PB4 (io), 17 PB5 (io), 18 PB6 (io), 19 PB7 (io), 20 PA0 (io), 21 PA1 (io), 22 PA2 (io), 23 PA3 (io), 24 PA4 (io), 25 PA5 (io), 26 PA6 (io), 27 PA7 (io), 28 ~{RESET} (in)

## MC68705P5L
designator U?
8-Bit EPROM Microcomputer; Published: 17-Jul-2002; LatestRevisionDate: 06-Jun-2005; LatestRevisionNote: Stylized 3D Model Added.; DatasheetVersion: 1984; PackageReference: 719-04; Publisher: Altium Limited; PackageDescription: DIP; 28 Leads; Row Spacing 15.24 mm; Pitch 2.54 mm
footprint 719-04 (DIP; 28 Leads; Row Spacing 15.24 mm; Pitch 2.54 mm)
3D model 719-03 (DIP; 28 Leads; Row Spacing 15.24 mm; Pitch 2.54 mm)
pins: 1 GND (power), 2 INT (in), 3 VCC (power), 4 EXTAL, 5 XTAL, 6 VPP (power), 7 TIMER (in), 8 PC0 (io), 9 PC1 (io), 10 PC2 (io), 11 PC3 (io), 12 PB0 (io), 13 PB1 (io), 14 PB2 (io), 15 PB3 (io), 16 PB4 (io), 17 PB5 (io), 18 PB6 (io), 19 PB7 (io), 20 PA0 (io), 21 PA1 (io), 22 PA2 (io), 23 PA3 (io), 24 PA4 (io), 25 PA5 (io), 26 PA6 (io), 27 PA7 (io), 28 ~{RESET} (in)

## MC68705P5S
designator U?
8-Bit EPROM Microcomputer; Published: 17-Jul-2002; LatestRevisionDate: 06-Jun-2005; LatestRevisionNote: Stylized 3D Model Added.; DatasheetVersion: 1984; PackageReference: 733-03; Publisher: Altium Limited; PackageDescription: DIP; 28 Leads; Row Spacing 15.24 mm; Pitch 2.54 mm
footprint 733-03 (DIP; 28 Leads; Row Spacing 15.24 mm; Pitch 2.54 mm)
3D model 710-02 (DIP; 28 Leads; Row Spacing 15.24 mm; Pitch 2.54 mm)
pins: 1 GND (power), 2 INT (in), 3 VCC (power), 4 EXTAL, 5 XTAL, 6 VPP (power), 7 TIMER (in), 8 PC0 (io), 9 PC1 (io), 10 PC2 (io), 11 PC3 (io), 12 PB0 (io), 13 PB1 (io), 14 PB2 (io), 15 PB3 (io), 16 PB4 (io), 17 PB5 (io), 18 PB6 (io), 19 PB7 (io), 20 PA0 (io), 21 PA1 (io), 22 PA2 (io), 23 PA3 (io), 24 PA4 (io), 25 PA5 (io), 26 PA6 (io), 27 PA7 (io), 28 ~{RESET} (in)

## MC68705R3CL
designator U?
8-Bit EPROM Microcomputer; Published: 17-Jul-2002; LatestRevisionDate: 06-Jun-2005; LatestRevisionNote: Stylized 3D Model Added.; DatasheetVersion: 1984; PackageReference: 715-05; Publisher: Altium Limited; PackageDescription: DIP; 40 Leads; Row Spacing 15.24 mm; Pitch 2.54 mm
footprint 715-05 (DIP; 40 Leads; Row Spacing 15.24 mm; Pitch 2.54 mm)
3D model 715-05 (DIP; 40 Leads; Row Spacing 15.24 mm; Pitch 2.54 mm)
pins: 1 GND (power), 2 ~{RST} (in), 3 INT (in), 4 VCC (power), 5 EXTAL, 6 XTAL, 7 VPP (power), 8 TIMER (in), 9 PC0 (io), 10 PC1 (io), 11 PC2 (io), 12 PC3 (io), 13 PC4 (io), 14 PC5 (io), 15 PC6 (io), 16 PC7 (io), 17 PD7 (in), 18 PD6/~{INT}2 (in), 19 PD5/V RH (in), 20 PD4/V RL (in), 21 PD3/AN3 (in), 22 PD2/AN2 (in), 23 PD1/AN1 (in), 24 PD0/AN0 (in), 25 PB0 (io), 26 PB1 (io), 27 PB2 (io), 28 PB3 (io), 29 PB4 (io), 30 PB5 (io), 31 PB6 (io), 32 PB7 (io), 33 PA0 (io), 34 PA1 (io), 35 PA2 (io), 36 PA3 (io), 37 PA4 (io), 38 PA5 (io), 39 PA6 (io), 40 PA7 (io)

## MC68705R3L
designator U?
8-Bit EPROM Microcomputer; Published: 17-Jul-2002; LatestRevisionDate: 06-Jun-2005; LatestRevisionNote: Stylized 3D Model Added.; DatasheetVersion: 1984; PackageReference: 715-05; Publisher: Altium Limited; PackageDescription: DIP; 40 Leads; Row Spacing 15.24 mm; Pitch 2.54 mm
footprint 715-05 (DIP; 40 Leads; Row Spacing 15.24 mm; Pitch 2.54 mm)
3D model 715-05 (DIP; 40 Leads; Row Spacing 15.24 mm; Pitch 2.54 mm)
pins: 1 GND (power), 2 ~{RST} (in), 3 INT (in), 4 VCC (power), 5 EXTAL, 6 XTAL, 7 VPP (power), 8 TIMER (in), 9 PC0 (io), 10 PC1 (io), 11 PC2 (io), 12 PC3 (io), 13 PC4 (io), 14 PC5 (io), 15 PC6 (io), 16 PC7 (io), 17 PD7 (in), 18 PD6/~{INT}2 (in), 19 PD5/V RH (in), 20 PD4/V RL (in), 21 PD3/AN3 (in), 22 PD2/AN2 (in), 23 PD1/AN1 (in), 24 PD0/AN0 (in), 25 PB0 (io), 26 PB1 (io), 27 PB2 (io), 28 PB3 (io), 29 PB4 (io), 30 PB5 (io), 31 PB6 (io), 32 PB7 (io), 33 PA0 (io), 34 PA1 (io), 35 PA2 (io), 36 PA3 (io), 37 PA4 (io), 38 PA5 (io), 39 PA6 (io), 40 PA7 (io)